# Altium integrated library Renesas Microcontroller R8C.IntLib: 628 symbols (part 16 of 33)
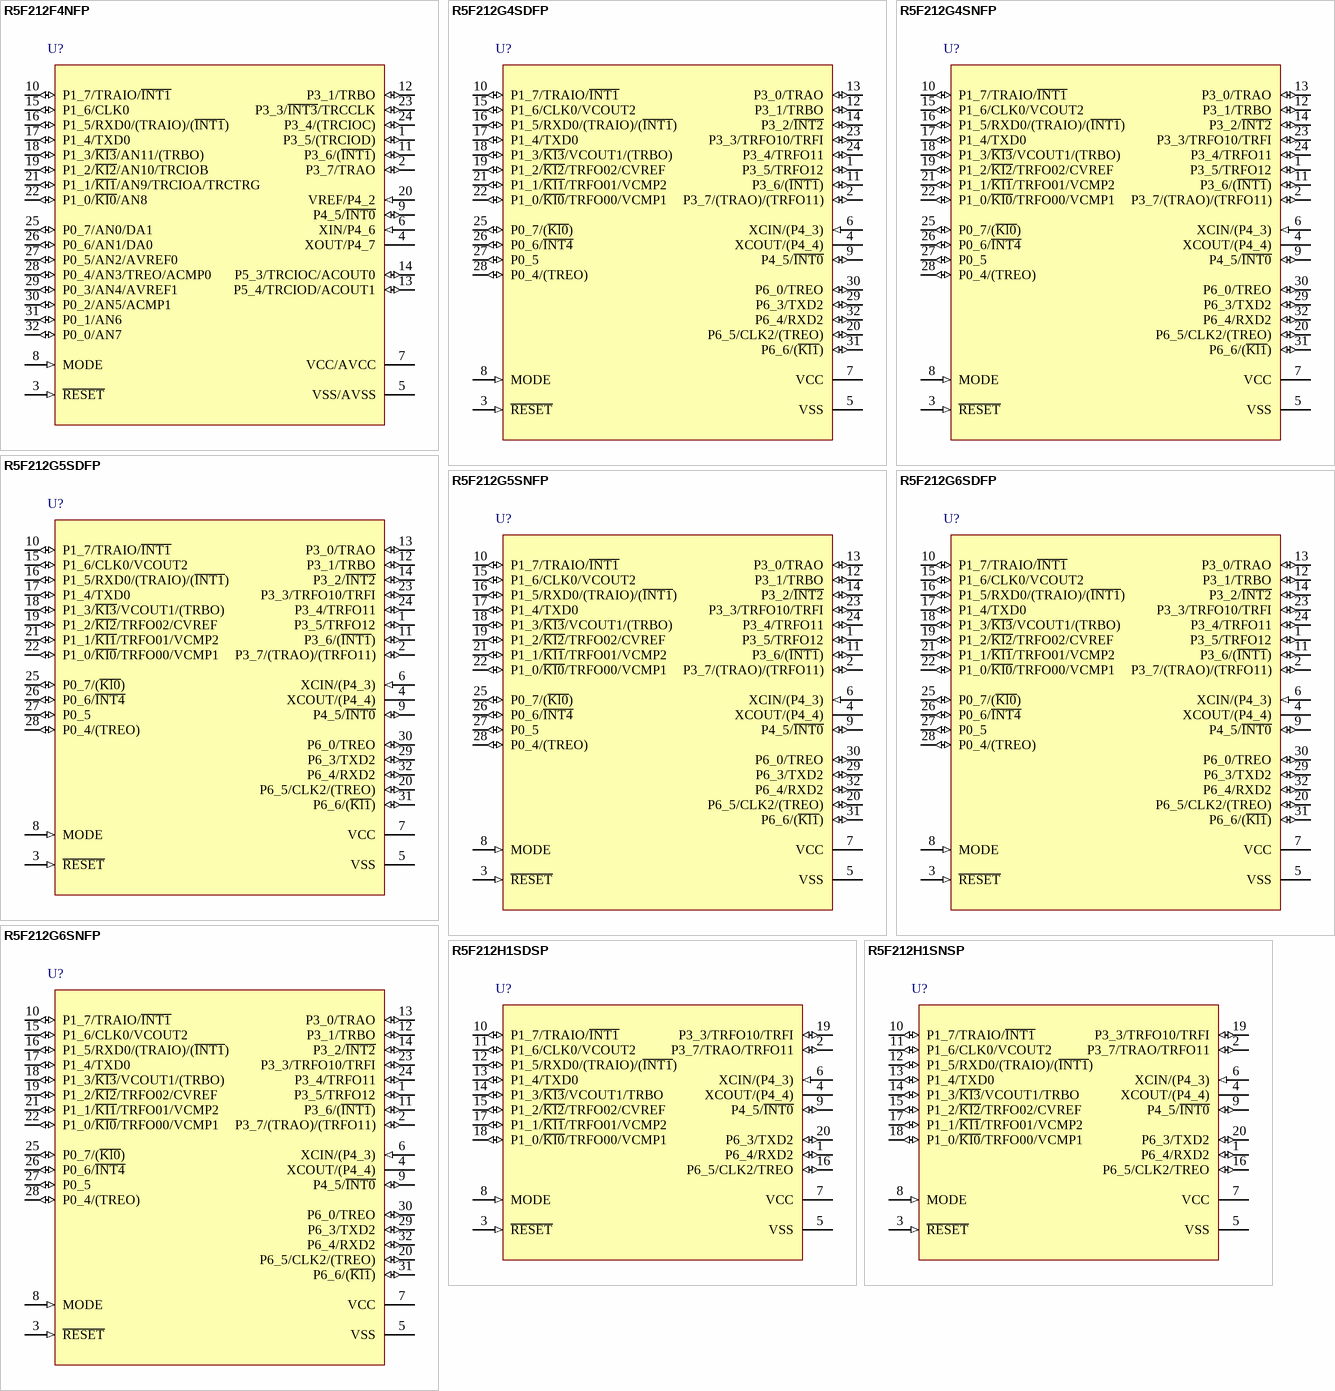
[diagram p131: symbols R5F212F4NFP to R5F212H1SNSP]

## R5F212F4NFP
designator U?
R8C/2F Group Single Chip 16-Bit CMOS MCU, 16K ROM + 1K x2 Data Flash, 1K RAM, N Version; Published: 30-Oct-2009; DatasheetVersion: Rev.1.00, Dec-2007; PackageVersion: Oct-2005; PackageReference: PLQP0032GB-A; Publisher: Altium Limited; PackageDescription: 32-Pin Plastic Low Profile QFP, 7 x 7 x 1.4 mm Body, 0.8 mm Pitch; Code_JEITA: P-LQFP32-7x7-0.80; ComponentLink1Description: Manufacturer Link; ComponentLink1URL: http://sg.renesas.com/fmwk.jsp?cnt=r8c_family_landing.jsp&fp=/products/mpumcu/r8c_family/; ComponentLink2Description: Datasheet; ComponentLink2URL: http://documentation.renesas.com/eng/products/mpumcu/rej03b0222_r8c2e2fds.pdf; ComponentLink3Description: Packaging Specification; ComponentLink3URL: http://sg.renesas.com/media/products/common_info/package/pdf/ic/code/plqp0032gb_a.pdf
footprint PLQP0032GB-A_N (QFP, 32-Leads, Body 7x7mm, Pitch 0.8mm, IPC Medium Density)
footprint PLQP0032GB-A_L (QFP, 32-Leads, Body 7x7mm, Pitch 0.8mm, IPC High Density)
footprint PLQP0032GB-A_M (QFP, 32-Leads, Body 7x7mm, Pitch 0.8mm, IPC Low Density)
pins: 1 P3_5/(TRCIOD) (io), 2 P3_7/TRAO (io), 3 ~{RESET} (in), 4 XOUT/P4_7, 5 VSS/AVSS (power), 6 XIN/P4_6 (in), 7 VCC/AVCC (power), 8 MODE (in), 9 P4_5/~{INT0} (io), 10 P1_7/TRAIO/~{INT1} (io), 11 P3_6/(~{INT1}) (io), 12 P3_1/TRBO (io), 13 P5_4/TRCIOD/ACOUT1 (io), 14 P5_3/TRCIOC/ACOUT0 (io), 15 P1_6/CLK0 (io), 16 P1_5/RXD0/(TRAIO)/(~{INT1}) (io), 17 P1_4/TXD0 (io), 18 P1_3/~{KI3}/AN11/(TRBO) (io), 19 P1_2/~{KI2}/AN10/TRCIOB (io), 20 VREF/P4_2 (in), 21 P1_1/~{KI1}/AN9/TRCIOA/TRCTRG (io), 22 P1_0/~{KI0}/AN8 (io), 23 P3_3/~{INT3}/TRCCLK (io), 24 P3_4/(TRCIOC) (io), 25 P0_7/AN0/DA1 (io), 26 P0_6/AN1/DA0 (io), 27 P0_5/AN2/AVREF0 (io), 28 P0_4/AN3/TREO/ACMP0 (io), 29 P0_3/AN4/AVREF1 (io), 30 P0_2/AN5/ACMP1 (io), 31 P0_1/AN6 (io), 32 P0_0/AN7 (io)

## R5F212G4SDFP
designator U?
R8C/2G Group Single Chip 16-Bit CMOS MCU, 16K ROM, 512b RAM, D Version; Published: 30-Oct-2009; DatasheetVersion: Rev.1.00, Apr-2008; PackageVersion: Oct-2005; PackageReference: PLQP0032GB-A; Publisher: Altium Limited; PackageDescription: 32-Pin Plastic Low Profile QFP, 7 x 7 x 1.4 mm Body, 0.8 mm Pitch; Code_JEITA: P-LQFP32-7x7-0.80; ComponentLink1Description: Manufacturer Link; ComponentLink1URL: http://sg.renesas.com/fmwk.jsp?cnt=r8c_family_landing.jsp&fp=/products/mpumcu/r8c_family/; ComponentLink2Description: Datasheet; ComponentLink2URL: http://documentation.renesas.com/eng/products/mpumcu/rej03b0223_r8c2gds.pdf; ComponentLink3Description: Packaging Specification; ComponentLink3URL: http://sg.renesas.com/media/products/common_info/package/pdf/ic/code/plqp0032gb_a.pdf
footprint PLQP0032GB-A_N (QFP, 32-Leads, Body 7x7mm, Pitch 0.8mm, IPC Medium Density)
footprint PLQP0032GB-A_L (QFP, 32-Leads, Body 7x7mm, Pitch 0.8mm, IPC High Density)
footprint PLQP0032GB-A_M (QFP, 32-Leads, Body 7x7mm, Pitch 0.8mm, IPC Low Density)
pins: 1 P3_5/TRFO12 (io), 2 P3_7/(TRAO)/(TRFO11) (io), 3 ~{RESET} (in), 4 XCOUT/(P4_4), 5 VSS (power), 6 XCIN/(P4_3) (in), 7 VCC (power), 8 MODE (in), 9 P4_5/~{INT0} (io), 10 P1_7/TRAIO/~{INT1} (io), 11 P3_6/(~{INT1}) (io), 12 P3_1/TRBO (io), 13 P3_0/TRAO (io), 14 P3_2/~{INT2} (io), 15 P1_6/CLK0/VCOUT2 (io), 16 P1_5/RXD0/(TRAIO)/(~{INT1}) (io), 17 P1_4/TXD0 (io), 18 P1_3/~{KI3}/VCOUT1/(TRBO) (io), 19 P1_2/~{KI2}/TRFO02/CVREF (io), 20 P6_5/CLK2/(TREO) (io), 21 P1_1/~{KI1}/TRFO01/VCMP2 (io), 22 P1_0/~{KI0}/TRFO00/VCMP1 (io), 23 P3_3/TRFO10/TRFI (io), 24 P3_4/TRFO11 (io), 25 P0_7/(~{Kl0}) (io), 26 P0_6/~{INT4} (io), 27 P0_5 (io), 28 P0_4/(TREO) (io), 29 P6_3/TXD2 (io), 30 P6_0/TREO (io), 31 P6_6/(~{Kl1}) (io), 32 P6_4/RXD2 (io)

## R5F212G4SNFP
designator U?
R8C/2G Group Single Chip 16-Bit CMOS MCU, 16K ROM, 512b RAM, N Version; Published: 30-Oct-2009; DatasheetVersion: Rev.1.00, Apr-2008; PackageVersion: Oct-2005; PackageReference: PLQP0032GB-A; Publisher: Altium Limited; PackageDescription: 32-Pin Plastic Low Profile QFP, 7 x 7 x 1.4 mm Body, 0.8 mm Pitch; Code_JEITA: P-LQFP32-7x7-0.80; ComponentLink1Description: Manufacturer Link; ComponentLink1URL: http://sg.renesas.com/fmwk.jsp?cnt=r8c_family_landing.jsp&fp=/products/mpumcu/r8c_family/; ComponentLink2Description: Datasheet; ComponentLink2URL: http://documentation.renesas.com/eng/products/mpumcu/rej03b0223_r8c2gds.pdf; ComponentLink3Description: Packaging Specification; ComponentLink3URL: http://sg.renesas.com/media/products/common_info/package/pdf/ic/code/plqp0032gb_a.pdf
footprint PLQP0032GB-A_N (QFP, 32-Leads, Body 7x7mm, Pitch 0.8mm, IPC Medium Density)
footprint PLQP0032GB-A_L (QFP, 32-Leads, Body 7x7mm, Pitch 0.8mm, IPC High Density)
footprint PLQP0032GB-A_M (QFP, 32-Leads, Body 7x7mm, Pitch 0.8mm, IPC Low Density)
pins: 1 P3_5/TRFO12 (io), 2 P3_7/(TRAO)/(TRFO11) (io), 3 ~{RESET} (in), 4 XCOUT/(P4_4), 5 VSS (power), 6 XCIN/(P4_3) (in), 7 VCC (power), 8 MODE (in), 9 P4_5/~{INT0} (io), 10 P1_7/TRAIO/~{INT1} (io), 11 P3_6/(~{INT1}) (io), 12 P3_1/TRBO (io), 13 P3_0/TRAO (io), 14 P3_2/~{INT2} (io), 15 P1_6/CLK0/VCOUT2 (io), 16 P1_5/RXD0/(TRAIO)/(~{INT1}) (io), 17 P1_4/TXD0 (io), 18 P1_3/~{KI3}/VCOUT1/(TRBO) (io), 19 P1_2/~{KI2}/TRFO02/CVREF (io), 20 P6_5/CLK2/(TREO) (io), 21 P1_1/~{KI1}/TRFO01/VCMP2 (io), 22 P1_0/~{KI0}/TRFO00/VCMP1 (io), 23 P3_3/TRFO10/TRFI (io), 24 P3_4/TRFO11 (io), 25 P0_7/(~{Kl0}) (io), 26 P0_6/~{INT4} (io), 27 P0_5 (io), 28 P0_4/(TREO) (io), 29 P6_3/TXD2 (io), 30 P6_0/TREO (io), 31 P6_6/(~{Kl1}) (io), 32 P6_4/RXD2 (io)

## R5F212G5SDFP
designator U?
R8C/2G Group Single Chip 16-Bit CMOS MCU, 24K ROM, 1K RAM, D Version; Published: 30-Oct-2009; DatasheetVersion: Rev.1.00, Apr-2008; PackageVersion: Oct-2005; PackageReference: PLQP0032GB-A; Publisher: Altium Limited; PackageDescription: 32-Pin Plastic Low Profile QFP, 7 x 7 x 1.4 mm Body, 0.8 mm Pitch; Code_JEITA: P-LQFP32-7x7-0.80; ComponentLink1Description: Manufacturer Link; ComponentLink1URL: http://sg.renesas.com/fmwk.jsp?cnt=r8c_family_landing.jsp&fp=/products/mpumcu/r8c_family/; ComponentLink2Description: Datasheet; ComponentLink2URL: http://documentation.renesas.com/eng/products/mpumcu/rej03b0223_r8c2gds.pdf; ComponentLink3Description: Packaging Specification; ComponentLink3URL: http://sg.renesas.com/media/products/common_info/package/pdf/ic/code/plqp0032gb_a.pdf
footprint PLQP0032GB-A_N (QFP, 32-Leads, Body 7x7mm, Pitch 0.8mm, IPC Medium Density)
footprint PLQP0032GB-A_L (QFP, 32-Leads, Body 7x7mm, Pitch 0.8mm, IPC High Density)
footprint PLQP0032GB-A_M (QFP, 32-Leads, Body 7x7mm, Pitch 0.8mm, IPC Low Density)
pins: 1 P3_5/TRFO12 (io), 2 P3_7/(TRAO)/(TRFO11) (io), 3 ~{RESET} (in), 4 XCOUT/(P4_4), 5 VSS (power), 6 XCIN/(P4_3) (in), 7 VCC (power), 8 MODE (in), 9 P4_5/~{INT0} (io), 10 P1_7/TRAIO/~{INT1} (io), 11 P3_6/(~{INT1}) (io), 12 P3_1/TRBO (io), 13 P3_0/TRAO (io), 14 P3_2/~{INT2} (io), 15 P1_6/CLK0/VCOUT2 (io), 16 P1_5/RXD0/(TRAIO)/(~{INT1}) (io), 17 P1_4/TXD0 (io), 18 P1_3/~{KI3}/VCOUT1/(TRBO) (io), 19 P1_2/~{KI2}/TRFO02/CVREF (io), 20 P6_5/CLK2/(TREO) (io), 21 P1_1/~{KI1}/TRFO01/VCMP2 (io), 22 P1_0/~{KI0}/TRFO00/VCMP1 (io), 23 P3_3/TRFO10/TRFI (io), 24 P3_4/TRFO11 (io), 25 P0_7/(~{Kl0}) (io), 26 P0_6/~{INT4} (io), 27 P0_5 (io), 28 P0_4/(TREO) (io), 29 P6_3/TXD2 (io), 30 P6_0/TREO (io), 31 P6_6/(~{Kl1}) (io), 32 P6_4/RXD2 (io)

## R5F212G5SNFP
designator U?
R8C/2G Group Single Chip 16-Bit CMOS MCU, 24K ROM, 1K RAM, N Version; Published: 30-Oct-2009; DatasheetVersion: Rev.1.00, Apr-2008; PackageVersion: Oct-2005; PackageReference: PLQP0032GB-A; Publisher: Altium Limited; PackageDescription: 32-Pin Plastic Low Profile QFP, 7 x 7 x 1.4 mm Body, 0.8 mm Pitch; Code_JEITA: P-LQFP32-7x7-0.80; ComponentLink1Description: Manufacturer Link; ComponentLink1URL: http://sg.renesas.com/fmwk.jsp?cnt=r8c_family_landing.jsp&fp=/products/mpumcu/r8c_family/; ComponentLink2Description: Datasheet; ComponentLink2URL: http://documentation.renesas.com/eng/products/mpumcu/rej03b0223_r8c2gds.pdf; ComponentLink3Description: Packaging Specification; ComponentLink3URL: http://sg.renesas.com/media/products/common_info/package/pdf/ic/code/plqp0032gb_a.pdf
footprint PLQP0032GB-A_N (QFP, 32-Leads, Body 7x7mm, Pitch 0.8mm, IPC Medium Density)
footprint PLQP0032GB-A_L (QFP, 32-Leads, Body 7x7mm, Pitch 0.8mm, IPC High Density)
footprint PLQP0032GB-A_M (QFP, 32-Leads, Body 7x7mm, Pitch 0.8mm, IPC Low Density)
pins: 1 P3_5/TRFO12 (io), 2 P3_7/(TRAO)/(TRFO11) (io), 3 ~{RESET} (in), 4 XCOUT/(P4_4), 5 VSS (power), 6 XCIN/(P4_3) (in), 7 VCC (power), 8 MODE (in), 9 P4_5/~{INT0} (io), 10 P1_7/TRAIO/~{INT1} (io), 11 P3_6/(~{INT1}) (io), 12 P3_1/TRBO (io), 13 P3_0/TRAO (io), 14 P3_2/~{INT2} (io), 15 P1_6/CLK0/VCOUT2 (io), 16 P1_5/RXD0/(TRAIO)/(~{INT1}) (io), 17 P1_4/TXD0 (io), 18 P1_3/~{KI3}/VCOUT1/(TRBO) (io), 19 P1_2/~{KI2}/TRFO02/CVREF (io), 20 P6_5/CLK2/(TREO) (io), 21 P1_1/~{KI1}/TRFO01/VCMP2 (io), 22 P1_0/~{KI0}/TRFO00/VCMP1 (io), 23 P3_3/TRFO10/TRFI (io), 24 P3_4/TRFO11 (io), 25 P0_7/(~{Kl0}) (io), 26 P0_6/~{INT4} (io), 27 P0_5 (io), 28 P0_4/(TREO) (io), 29 P6_3/TXD2 (io), 30 P6_0/TREO (io), 31 P6_6/(~{Kl1}) (io), 32 P6_4/RXD2 (io)

## R5F212G6SDFP
designator U?
R8C/2G Group Single Chip 16-Bit CMOS MCU, 32K ROM, 1K RAM, D Version; Published: 30-Oct-2009; DatasheetVersion: Rev.1.00, Apr-2008; PackageVersion: Oct-2005; PackageReference: PLQP0032GB-A; Publisher: Altium Limited; PackageDescription: 32-Pin Plastic Low Profile QFP, 7 x 7 x 1.4 mm Body, 0.8 mm Pitch; Code_JEITA: P-LQFP32-7x7-0.80; ComponentLink1Description: Manufacturer Link; ComponentLink1URL: http://sg.renesas.com/fmwk.jsp?cnt=r8c_family_landing.jsp&fp=/products/mpumcu/r8c_family/; ComponentLink2Description: Datasheet; ComponentLink2URL: http://documentation.renesas.com/eng/products/mpumcu/rej03b0223_r8c2gds.pdf; ComponentLink3Description: Packaging Specification; ComponentLink3URL: http://sg.renesas.com/media/products/common_info/package/pdf/ic/code/plqp0032gb_a.pdf
footprint PLQP0032GB-A_N (QFP, 32-Leads, Body 7x7mm, Pitch 0.8mm, IPC Medium Density)
footprint PLQP0032GB-A_L (QFP, 32-Leads, Body 7x7mm, Pitch 0.8mm, IPC High Density)
footprint PLQP0032GB-A_M (QFP, 32-Leads, Body 7x7mm, Pitch 0.8mm, IPC Low Density)
pins: 1 P3_5/TRFO12 (io), 2 P3_7/(TRAO)/(TRFO11) (io), 3 ~{RESET} (in), 4 XCOUT/(P4_4), 5 VSS (power), 6 XCIN/(P4_3) (in), 7 VCC (power), 8 MODE (in), 9 P4_5/~{INT0} (io), 10 P1_7/TRAIO/~{INT1} (io), 11 P3_6/(~{INT1}) (io), 12 P3_1/TRBO (io), 13 P3_0/TRAO (io), 14 P3_2/~{INT2} (io), 15 P1_6/CLK0/VCOUT2 (io), 16 P1_5/RXD0/(TRAIO)/(~{INT1}) (io), 17 P1_4/TXD0 (io), 18 P1_3/~{KI3}/VCOUT1/(TRBO) (io), 19 P1_2/~{KI2}/TRFO02/CVREF (io), 20 P6_5/CLK2/(TREO) (io), 21 P1_1/~{KI1}/TRFO01/VCMP2 (io), 22 P1_0/~{KI0}/TRFO00/VCMP1 (io), 23 P3_3/TRFO10/TRFI (io), 24 P3_4/TRFO11 (io), 25 P0_7/(~{Kl0}) (io), 26 P0_6/~{INT4} (io), 27 P0_5 (io), 28 P0_4/(TREO) (io), 29 P6_3/TXD2 (io), 30 P6_0/TREO (io), 31 P6_6/(~{Kl1}) (io), 32 P6_4/RXD2 (io)

## R5F212G6SNFP
designator U?
R8C/2G Group Single Chip 16-Bit CMOS MCU, 32K ROM, 1K RAM, N Version; Published: 30-Oct-2009; DatasheetVersion: Rev.1.00, Apr-2008; PackageVersion: Oct-2005; PackageReference: PLQP0032GB-A; Publisher: Altium Limited; PackageDescription: 32-Pin Plastic Low Profile QFP, 7 x 7 x 1.4 mm Body, 0.8 mm Pitch; Code_JEITA: P-LQFP32-7x7-0.80; ComponentLink1Description: Manufacturer Link; ComponentLink1URL: http://sg.renesas.com/fmwk.jsp?cnt=r8c_family_landing.jsp&fp=/products/mpumcu/r8c_family/; ComponentLink2Description: Datasheet; ComponentLink2URL: http://documentation.renesas.com/eng/products/mpumcu/rej03b0223_r8c2gds.pdf; ComponentLink3Description: Packaging Specification; ComponentLink3URL: http://sg.renesas.com/media/products/common_info/package/pdf/ic/code/plqp0032gb_a.pdf
footprint PLQP0032GB-A_N (QFP, 32-Leads, Body 7x7mm, Pitch 0.8mm, IPC Medium Density)
footprint PLQP0032GB-A_L (QFP, 32-Leads, Body 7x7mm, Pitch 0.8mm, IPC High Density)
footprint PLQP0032GB-A_M (QFP, 32-Leads, Body 7x7mm, Pitch 0.8mm, IPC Low Density)
pins: 1 P3_5/TRFO12 (io), 2 P3_7/(TRAO)/(TRFO11) (io), 3 ~{RESET} (in), 4 XCOUT/(P4_4), 5 VSS (power), 6 XCIN/(P4_3) (in), 7 VCC (power), 8 MODE (in), 9 P4_5/~{INT0} (io), 10 P1_7/TRAIO/~{INT1} (io), 11 P3_6/(~{INT1}) (io), 12 P3_1/TRBO (io), 13 P3_0/TRAO (io), 14 P3_2/~{INT2} (io), 15 P1_6/CLK0/VCOUT2 (io), 16 P1_5/RXD0/(TRAIO)/(~{INT1}) (io), 17 P1_4/TXD0 (io), 18 P1_3/~{KI3}/VCOUT1/(TRBO) (io), 19 P1_2/~{KI2}/TRFO02/CVREF (io), 20 P6_5/CLK2/(TREO) (io), 21 P1_1/~{KI1}/TRFO01/VCMP2 (io), 22 P1_0/~{KI0}/TRFO00/VCMP1 (io), 23 P3_3/TRFO10/TRFI (io), 24 P3_4/TRFO11 (io), 25 P0_7/(~{Kl0}) (io), 26 P0_6/~{INT4} (io), 27 P0_5 (io), 28 P0_4/(TREO) (io), 29 P6_3/TXD2 (io), 30 P6_0/TREO (io), 31 P6_6/(~{Kl1}) (io), 32 P6_4/RXD2 (io)

## R5F212H1SDSP
designator U?
R8C/2H Group Single Chip 16-Bit CMOS MCU, 4K ROM, 256b RAM, D Version; Published: 30-Oct-2009; DatasheetVersion: Rev.1.00, Mar-2008; PackageVersion: Sep-2005; PackageReference: PLSP0020JB-A; Publisher: Altium Limited; PackageDescription: 20-Pin Plastic Low Profile Shrink SOP, 6.5 x 4.4 x 1.15 mm Body, 0.65 mm Pitch; Code_JEITA: P-LSSOP20-4.4x6.5-0.65; Code_JEDEC: MO-152-AC; ComponentLink1Description: Manufacturer Link; ComponentLink1URL: http://sg.renesas.com/fmwk.jsp?cnt=r8c_family_landing.jsp&fp=/products/mpumcu/r8c_family/; ComponentLink2Description: Datasheet; ComponentLink2URL: http://documentation.renesas.com/eng/products/mpumcu/rej03b0217_r8c2h2jds.pdf; ComponentLink3Description: Packaging Specification; ComponentLink3URL: http://sg.renesas.com/media/products/common_info/package/pdf/ic/code/plsp0020jb_a.pdf
footprint PLSP0020JB-A_N (SOP, 20-Leads, Body 6.5x4.4mm, Pitch 0.65mm, IPC Medium Density)
footprint PLSP0020JB-A_L (SOP, 20-Leads, Body 6.5x4.4mm, Pitch 0.65mm, IPC High Density)
footprint PLSP0020JB-A_M (SOP, 20-Leads, Body 6.5x4.4mm, Pitch 0.65mm, IPC Low Density)
pins: 1 P6_4/RXD2 (io), 2 P3_7/TRAO/TRFO11 (io), 3 ~{RESET} (in), 4 XCOUT/(P4_4), 5 VSS (power), 6 XCIN/(P4_3) (in), 7 VCC (power), 8 MODE (in), 9 P4_5/~{INT0} (io), 10 P1_7/TRAIO/~{INT1} (io), 11 P1_6/CLK0/VCOUT2 (io), 12 P1_5/RXD0/(TRAIO)/(~{INT1}) (io), 13 P1_4/TXD0 (io), 14 P1_3/~{KI3}/VCOUT1/TRBO (io), 15 P1_2/~{KI2}/TRFO02/CVREF (io), 16 P6_5/CLK2/TREO (io), 17 P1_1/~{KI1}/TRFO01/VCMP2 (io), 18 P1_0/~{KI0}/TRFO00/VCMP1 (io), 19 P3_3/TRFO10/TRFI (io), 20 P6_3/TXD2 (io)

## R5F212H1SNSP
designator U?
R8C/2H Group Single Chip 16-Bit CMOS MCU, 4K ROM, 256b RAM, N Version; Published: 30-Oct-2009; DatasheetVersion: Rev.1.00, Mar-2008; PackageVersion: Sep-2005; PackageReference: PLSP0020JB-A; Publisher: Altium Limited; PackageDescription: 20-Pin Plastic Low Profile Shrink SOP, 6.5 x 4.4 x 1.15 mm Body, 0.65 mm Pitch; Code_JEITA: P-LSSOP20-4.4x6.5-0.65; Code_JEDEC: MO-152-AC; ComponentLink1Description: Manufacturer Link; ComponentLink1URL: http://sg.renesas.com/fmwk.jsp?cnt=r8c_family_landing.jsp&fp=/products/mpumcu/r8c_family/; ComponentLink2Description: Datasheet; ComponentLink2URL: http://documentation.renesas.com/eng/products/mpumcu/rej03b0217_r8c2h2jds.pdf; ComponentLink3Description: Packaging Specification; ComponentLink3URL: http://sg.renesas.com/media/products/common_info/package/pdf/ic/code/plsp0020jb_a.pdf
footprint PLSP0020JB-A_N (SOP, 20-Leads, Body 6.5x4.4mm, Pitch 0.65mm, IPC Medium Density)
footprint PLSP0020JB-A_L (SOP, 20-Leads, Body 6.5x4.4mm, Pitch 0.65mm, IPC High Density)
footprint PLSP0020JB-A_M (SOP, 20-Leads, Body 6.5x4.4mm, Pitch 0.65mm, IPC Low Density)
pins: 1 P6_4/RXD2 (io), 2 P3_7/TRAO/TRFO11 (io), 3 ~{RESET} (in), 4 XCOUT/(P4_4), 5 VSS (power), 6 XCIN/(P4_3) (in), 7 VCC (power), 8 MODE (in), 9 P4_5/~{INT0} (io), 10 P1_7/TRAIO/~{INT1} (io), 11 P1_6/CLK0/VCOUT2 (io), 12 P1_5/RXD0/(TRAIO)/(~{INT1}) (io), 13 P1_4/TXD0 (io), 14 P1_3/~{KI3}/VCOUT1/TRBO (io), 15 P1_2/~{KI2}/TRFO02/CVREF (io), 16 P6_5/CLK2/TREO (io), 17 P1_1/~{KI1}/TRFO01/VCMP2 (io), 18 P1_0/~{KI0}/TRFO00/VCMP1 (io), 19 P3_3/TRFO10/TRFI (io), 20 P6_3/TXD2 (io)

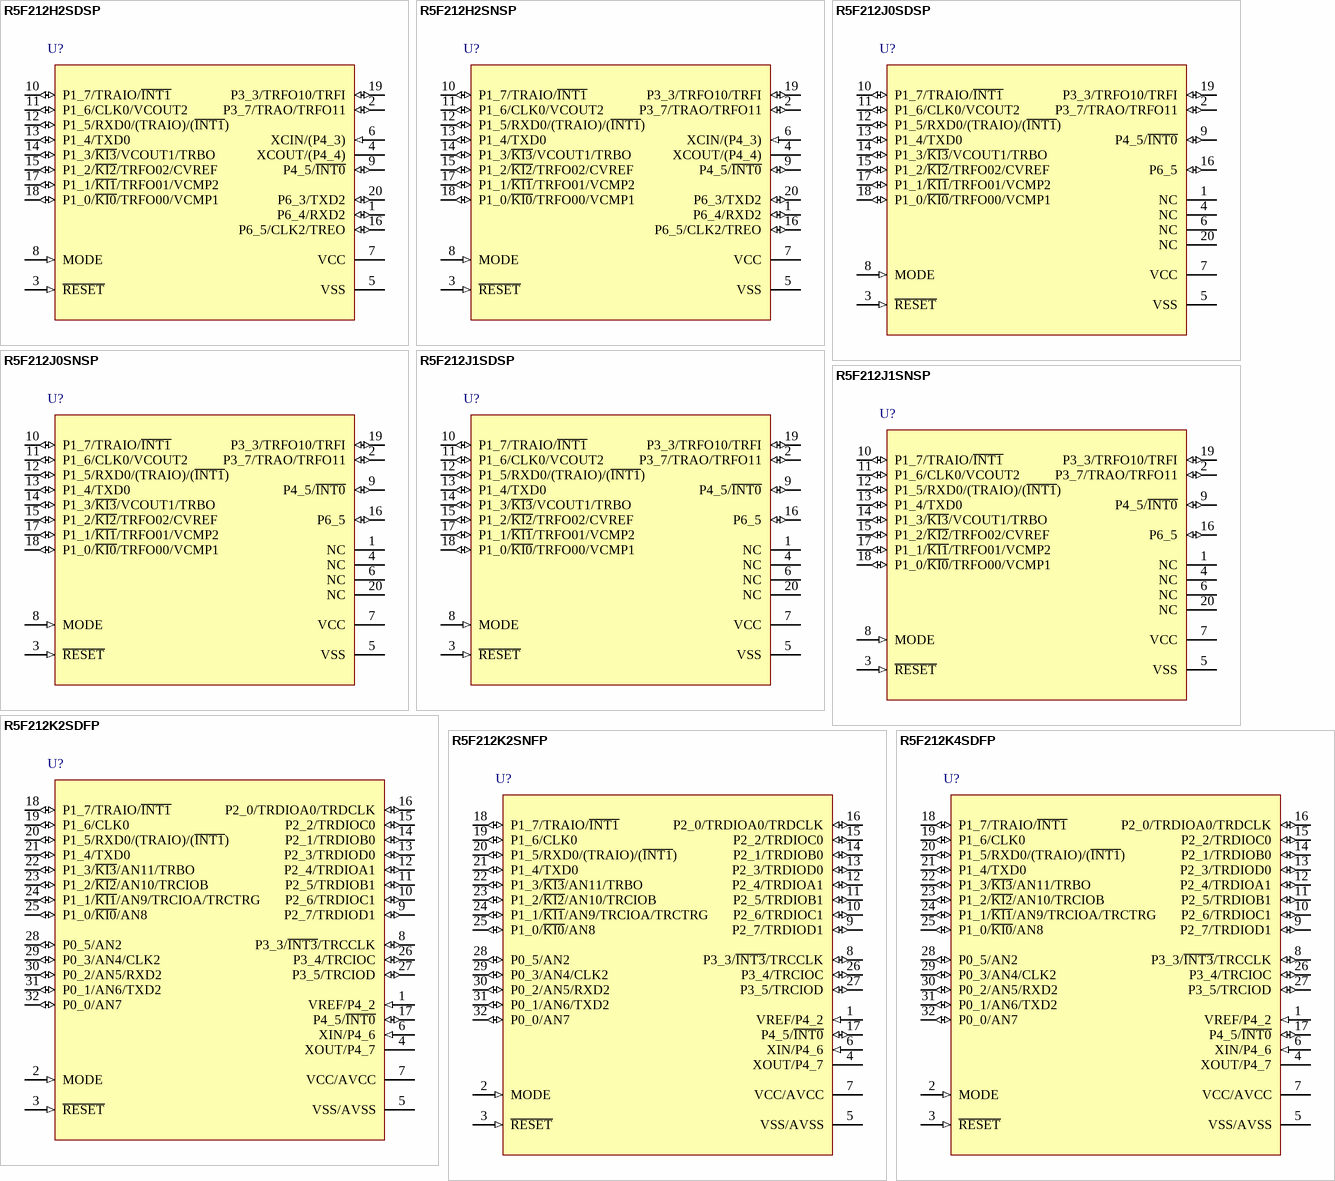
[diagram p55: symbols R5F212H2SDSP to R5F212K4SDFP]

## R5F212H2SDSP
designator U?
R8C/2H Group Single Chip 16-Bit CMOS MCU, 8K ROM, 384b RAM, D Version; Published: 30-Oct-2009; DatasheetVersion: Rev.1.00, Mar-2008; PackageVersion: Sep-2005; PackageReference: PLSP0020JB-A; Publisher: Altium Limited; PackageDescription: 20-Pin Plastic Low Profile Shrink SOP, 6.5 x 4.4 x 1.15 mm Body, 0.65 mm Pitch; Code_JEITA: P-LSSOP20-4.4x6.5-0.65; Code_JEDEC: MO-152-AC; ComponentLink1Description: Manufacturer Link; ComponentLink1URL: http://sg.renesas.com/fmwk.jsp?cnt=r8c_family_landing.jsp&fp=/products/mpumcu/r8c_family/; ComponentLink2Description: Datasheet; ComponentLink2URL: http://documentation.renesas.com/eng/products/mpumcu/rej03b0217_r8c2h2jds.pdf; ComponentLink3Description: Packaging Specification; ComponentLink3URL: http://sg.renesas.com/media/products/common_info/package/pdf/ic/code/plsp0020jb_a.pdf
footprint PLSP0020JB-A_N (SOP, 20-Leads, Body 6.5x4.4mm, Pitch 0.65mm, IPC Medium Density)
footprint PLSP0020JB-A_L (SOP, 20-Leads, Body 6.5x4.4mm, Pitch 0.65mm, IPC High Density)
footprint PLSP0020JB-A_M (SOP, 20-Leads, Body 6.5x4.4mm, Pitch 0.65mm, IPC Low Density)
pins: 1 P6_4/RXD2 (io), 2 P3_7/TRAO/TRFO11 (io), 3 ~{RESET} (in), 4 XCOUT/(P4_4), 5 VSS (power), 6 XCIN/(P4_3) (in), 7 VCC (power), 8 MODE (in), 9 P4_5/~{INT0} (io), 10 P1_7/TRAIO/~{INT1} (io), 11 P1_6/CLK0/VCOUT2 (io), 12 P1_5/RXD0/(TRAIO)/(~{INT1}) (io), 13 P1_4/TXD0 (io), 14 P1_3/~{KI3}/VCOUT1/TRBO (io), 15 P1_2/~{KI2}/TRFO02/CVREF (io), 16 P6_5/CLK2/TREO (io), 17 P1_1/~{KI1}/TRFO01/VCMP2 (io), 18 P1_0/~{KI0}/TRFO00/VCMP1 (io), 19 P3_3/TRFO10/TRFI (io), 20 P6_3/TXD2 (io)

## R5F212H2SNSP
designator U?
R8C/2H Group Single Chip 16-Bit CMOS MCU, 8K ROM, 384b RAM, N Version; Published: 30-Oct-2009; DatasheetVersion: Rev.1.00, Mar-2008; PackageVersion: Sep-2005; PackageReference: PLSP0020JB-A; Publisher: Altium Limited; PackageDescription: 20-Pin Plastic Low Profile Shrink SOP, 6.5 x 4.4 x 1.15 mm Body, 0.65 mm Pitch; Code_JEITA: P-LSSOP20-4.4x6.5-0.65; Code_JEDEC: MO-152-AC; ComponentLink1Description: Manufacturer Link; ComponentLink1URL: http://sg.renesas.com/fmwk.jsp?cnt=r8c_family_landing.jsp&fp=/products/mpumcu/r8c_family/; ComponentLink2Description: Datasheet; ComponentLink2URL: http://documentation.renesas.com/eng/products/mpumcu/rej03b0217_r8c2h2jds.pdf; ComponentLink3Description: Packaging Specification; ComponentLink3URL: http://sg.renesas.com/media/products/common_info/package/pdf/ic/code/plsp0020jb_a.pdf
footprint PLSP0020JB-A_N (SOP, 20-Leads, Body 6.5x4.4mm, Pitch 0.65mm, IPC Medium Density)
footprint PLSP0020JB-A_L (SOP, 20-Leads, Body 6.5x4.4mm, Pitch 0.65mm, IPC High Density)
footprint PLSP0020JB-A_M (SOP, 20-Leads, Body 6.5x4.4mm, Pitch 0.65mm, IPC Low Density)
pins: 1 P6_4/RXD2 (io), 2 P3_7/TRAO/TRFO11 (io), 3 ~{RESET} (in), 4 XCOUT/(P4_4), 5 VSS (power), 6 XCIN/(P4_3) (in), 7 VCC (power), 8 MODE (in), 9 P4_5/~{INT0} (io), 10 P1_7/TRAIO/~{INT1} (io), 11 P1_6/CLK0/VCOUT2 (io), 12 P1_5/RXD0/(TRAIO)/(~{INT1}) (io), 13 P1_4/TXD0 (io), 14 P1_3/~{KI3}/VCOUT1/TRBO (io), 15 P1_2/~{KI2}/TRFO02/CVREF (io), 16 P6_5/CLK2/TREO (io), 17 P1_1/~{KI1}/TRFO01/VCMP2 (io), 18 P1_0/~{KI0}/TRFO00/VCMP1 (io), 19 P3_3/TRFO10/TRFI (io), 20 P6_3/TXD2 (io)

## R5F212J0SDSP
designator U?
R8C/2J Group Single Chip 16-Bit CMOS MCU, 2K ROM, 256b RAM, D Version; Published: 30-Oct-2009; DatasheetVersion: Rev.1.00, Mar-2008; PackageVersion: Sep-2005; PackageReference: PLSP0020JB-A; Publisher: Altium Limited; PackageDescription: 20-Pin Plastic Low Profile Shrink SOP, 6.5 x 4.4 x 1.15 mm Body, 0.65 mm Pitch; Code_JEITA: P-LSSOP20-4.4x6.5-0.65; Code_JEDEC: MO-152-AC; ComponentLink1Description: Manufacturer Link; ComponentLink1URL: http://sg.renesas.com/fmwk.jsp?cnt=r8c_family_landing.jsp&fp=/products/mpumcu/r8c_family/; ComponentLink2Description: Datasheet; ComponentLink2URL: http://documentation.renesas.com/eng/products/mpumcu/rej03b0217_r8c2h2jds.pdf; ComponentLink3Description: Packaging Specification; ComponentLink3URL: http://sg.renesas.com/media/products/common_info/package/pdf/ic/code/plsp0020jb_a.pdf
footprint PLSP0020JB-A_N (SOP, 20-Leads, Body 6.5x4.4mm, Pitch 0.65mm, IPC Medium Density)
footprint PLSP0020JB-A_L (SOP, 20-Leads, Body 6.5x4.4mm, Pitch 0.65mm, IPC High Density)
footprint PLSP0020JB-A_M (SOP, 20-Leads, Body 6.5x4.4mm, Pitch 0.65mm, IPC Low Density)
pins: 1 NC, 2 P3_7/TRAO/TRFO11 (io), 3 ~{RESET} (in), 4 NC, 5 VSS (power), 6 NC, 7 VCC (power), 8 MODE (in), 9 P4_5/~{INT0} (io), 10 P1_7/TRAIO/~{INT1} (io), 11 P1_6/CLK0/VCOUT2 (io), 12 P1_5/RXD0/(TRAIO)/(~{INT1}) (io), 13 P1_4/TXD0 (io), 14 P1_3/~{KI3}/VCOUT1/TRBO (io), 15 P1_2/~{KI2}/TRFO02/CVREF (io), 16 P6_5 (io), 17 P1_1/~{KI1}/TRFO01/VCMP2 (io), 18 P1_0/~{KI0}/TRFO00/VCMP1 (io), 19 P3_3/TRFO10/TRFI (io), 20 NC

## R5F212J0SNSP
designator U?
R8C/2J Group Single Chip 16-Bit CMOS MCU, 2K ROM, 256b RAM, N Version; Published: 30-Oct-2009; DatasheetVersion: Rev.1.00, Mar-2008; PackageVersion: Sep-2005; PackageReference: PLSP0020JB-A; Publisher: Altium Limited; PackageDescription: 20-Pin Plastic Low Profile Shrink SOP, 6.5 x 4.4 x 1.15 mm Body, 0.65 mm Pitch; Code_JEITA: P-LSSOP20-4.4x6.5-0.65; Code_JEDEC: MO-152-AC; ComponentLink1Description: Manufacturer Link; ComponentLink1URL: http://sg.renesas.com/fmwk.jsp?cnt=r8c_family_landing.jsp&fp=/products/mpumcu/r8c_family/; ComponentLink2Description: Datasheet; ComponentLink2URL: http://documentation.renesas.com/eng/products/mpumcu/rej03b0217_r8c2h2jds.pdf; ComponentLink3Description: Packaging Specification; ComponentLink3URL: http://sg.renesas.com/media/products/common_info/package/pdf/ic/code/plsp0020jb_a.pdf
footprint PLSP0020JB-A_N (SOP, 20-Leads, Body 6.5x4.4mm, Pitch 0.65mm, IPC Medium Density)
footprint PLSP0020JB-A_L (SOP, 20-Leads, Body 6.5x4.4mm, Pitch 0.65mm, IPC High Density)
footprint PLSP0020JB-A_M (SOP, 20-Leads, Body 6.5x4.4mm, Pitch 0.65mm, IPC Low Density)
pins: 1 NC, 2 P3_7/TRAO/TRFO11 (io), 3 ~{RESET} (in), 4 NC, 5 VSS (power), 6 NC, 7 VCC (power), 8 MODE (in), 9 P4_5/~{INT0} (io), 10 P1_7/TRAIO/~{INT1} (io), 11 P1_6/CLK0/VCOUT2 (io), 12 P1_5/RXD0/(TRAIO)/(~{INT1}) (io), 13 P1_4/TXD0 (io), 14 P1_3/~{KI3}/VCOUT1/TRBO (io), 15 P1_2/~{KI2}/TRFO02/CVREF (io), 16 P6_5 (io), 17 P1_1/~{KI1}/TRFO01/VCMP2 (io), 18 P1_0/~{KI0}/TRFO00/VCMP1 (io), 19 P3_3/TRFO10/TRFI (io), 20 NC

## R5F212J1SDSP
designator U?
R8C/2J Group Single Chip 16-Bit CMOS MCU, 4K ROM, 384b RAM, D Version; Published: 30-Oct-2009; DatasheetVersion: Rev.1.00, Mar-2008; PackageVersion: Sep-2005; PackageReference: PLSP0020JB-A; Publisher: Altium Limited; PackageDescription: 20-Pin Plastic Low Profile Shrink SOP, 6.5 x 4.4 x 1.15 mm Body, 0.65 mm Pitch; Code_JEITA: P-LSSOP20-4.4x6.5-0.65; Code_JEDEC: MO-152-AC; ComponentLink1Description: Manufacturer Link; ComponentLink1URL: http://sg.renesas.com/fmwk.jsp?cnt=r8c_family_landing.jsp&fp=/products/mpumcu/r8c_family/; ComponentLink2Description: Datasheet; ComponentLink2URL: http://documentation.renesas.com/eng/products/mpumcu/rej03b0217_r8c2h2jds.pdf; ComponentLink3Description: Packaging Specification; ComponentLink3URL: http://sg.renesas.com/media/products/common_info/package/pdf/ic/code/plsp0020jb_a.pdf
footprint PLSP0020JB-A_N (SOP, 20-Leads, Body 6.5x4.4mm, Pitch 0.65mm, IPC Medium Density)
footprint PLSP0020JB-A_L (SOP, 20-Leads, Body 6.5x4.4mm, Pitch 0.65mm, IPC High Density)
footprint PLSP0020JB-A_M (SOP, 20-Leads, Body 6.5x4.4mm, Pitch 0.65mm, IPC Low Density)
pins: 1 NC, 2 P3_7/TRAO/TRFO11 (io), 3 ~{RESET} (in), 4 NC, 5 VSS (power), 6 NC, 7 VCC (power), 8 MODE (in), 9 P4_5/~{INT0} (io), 10 P1_7/TRAIO/~{INT1} (io), 11 P1_6/CLK0/VCOUT2 (io), 12 P1_5/RXD0/(TRAIO)/(~{INT1}) (io), 13 P1_4/TXD0 (io), 14 P1_3/~{KI3}/VCOUT1/TRBO (io), 15 P1_2/~{KI2}/TRFO02/CVREF (io), 16 P6_5 (io), 17 P1_1/~{KI1}/TRFO01/VCMP2 (io), 18 P1_0/~{KI0}/TRFO00/VCMP1 (io), 19 P3_3/TRFO10/TRFI (io), 20 NC

## R5F212J1SNSP
designator U?
R8C/2J Group Single Chip 16-Bit CMOS MCU, 4K ROM, 384b RAM, N Version; Published: 30-Oct-2009; DatasheetVersion: Rev.1.00, Mar-2008; PackageVersion: Sep-2005; PackageReference: PLSP0020JB-A; Publisher: Altium Limited; PackageDescription: 20-Pin Plastic Low Profile Shrink SOP, 6.5 x 4.4 x 1.15 mm Body, 0.65 mm Pitch; Code_JEITA: P-LSSOP20-4.4x6.5-0.65; Code_JEDEC: MO-152-AC; ComponentLink1Description: Manufacturer Link; ComponentLink1URL: http://sg.renesas.com/fmwk.jsp?cnt=r8c_family_landing.jsp&fp=/products/mpumcu/r8c_family/; ComponentLink2Description: Datasheet; ComponentLink2URL: http://documentation.renesas.com/eng/products/mpumcu/rej03b0217_r8c2h2jds.pdf; ComponentLink3Description: Packaging Specification; ComponentLink3URL: http://sg.renesas.com/media/products/common_info/package/pdf/ic/code/plsp0020jb_a.pdf
footprint PLSP0020JB-A_N (SOP, 20-Leads, Body 6.5x4.4mm, Pitch 0.65mm, IPC Medium Density)
footprint PLSP0020JB-A_L (SOP, 20-Leads, Body 6.5x4.4mm, Pitch 0.65mm, IPC High Density)
footprint PLSP0020JB-A_M (SOP, 20-Leads, Body 6.5x4.4mm, Pitch 0.65mm, IPC Low Density)
pins: 1 NC, 2 P3_7/TRAO/TRFO11 (io), 3 ~{RESET} (in), 4 NC, 5 VSS (power), 6 NC, 7 VCC (power), 8 MODE (in), 9 P4_5/~{INT0} (io), 10 P1_7/TRAIO/~{INT1} (io), 11 P1_6/CLK0/VCOUT2 (io), 12 P1_5/RXD0/(TRAIO)/(~{INT1}) (io), 13 P1_4/TXD0 (io), 14 P1_3/~{KI3}/VCOUT1/TRBO (io), 15 P1_2/~{KI2}/TRFO02/CVREF (io), 16 P6_5 (io), 17 P1_1/~{KI1}/TRFO01/VCMP2 (io), 18 P1_0/~{KI0}/TRFO00/VCMP1 (io), 19 P3_3/TRFO10/TRFI (io), 20 NC

## R5F212K2SDFP
designator U?
R8C/2K Group Single Chip 16-Bit CMOS MCU, 8K ROM, 1K RAM, D Version; Published: 30-Oct-2009; DatasheetVersion: Rev.1.10, Dec-2007; PackageVersion: Oct-2005; PackageReference: PLQP0032GB-A; Publisher: Altium Limited; PackageDescription: 32-Pin Plastic Low Profile QFP, 7 x 7 x 1.4 mm Body, 0.8 mm Pitch; Code_JEITA: P-LQFP32-7x7-0.80; ComponentLink1Description: Manufacturer Link; ComponentLink1URL: http://sg.renesas.com/fmwk.jsp?cnt=r8c_family_landing.jsp&fp=/products/mpumcu/r8c_family/; ComponentLink2Description: Datasheet; ComponentLink2URL: http://documentation.renesas.com/eng/products/mpumcu/rej03b0219_r8c2k2lds.pdf; ComponentLink3Description: Packaging Specification; ComponentLink3URL: http://sg.renesas.com/media/products/common_info/package/pdf/ic/code/plqp0032gb_a.pdf
footprint PLQP0032GB-A_N (QFP, 32-Leads, Body 7x7mm, Pitch 0.8mm, IPC Medium Density)
footprint PLQP0032GB-A_L (QFP, 32-Leads, Body 7x7mm, Pitch 0.8mm, IPC High Density)
footprint PLQP0032GB-A_M (QFP, 32-Leads, Body 7x7mm, Pitch 0.8mm, IPC Low Density)
pins: 1 VREF/P4_2 (in), 2 MODE (in), 3 ~{RESET} (in), 4 XOUT/P4_7, 5 VSS/AVSS (power), 6 XIN/P4_6 (in), 7 VCC/AVCC (power), 8 P3_3/~{INT3}/TRCCLK (io), 9 P2_7/TRDIOD1 (io), 10 P2_6/TRDIOC1 (io), 11 P2_5/TRDIOB1 (io), 12 P2_4/TRDIOA1 (io), 13 P2_3/TRDIOD0 (io), 14 P2_1/TRDIOB0 (io), 15 P2_2/TRDIOC0 (io), 16 P2_0/TRDIOA0/TRDCLK (io), 17 P4_5/~{INT0} (io), 18 P1_7/TRAIO/~{INT1} (io), 19 P1_6/CLK0 (io), 20 P1_5/RXD0/(TRAIO)/(~{INT1}) (io), 21 P1_4/TXD0 (io), 22 P1_3/~{KI3}/AN11/TRBO (io), 23 P1_2/~{KI2}/AN10/TRCIOB (io), 24 P1_1/~{KI1}/AN9/TRCIOA/TRCTRG (io), 25 P1_0/~{KI0}/AN8 (io), 26 P3_4/TRCIOC (io), 27 P3_5/TRCIOD (io), 28 P0_5/AN2 (io), 29 P0_3/AN4/CLK2 (io), 30 P0_2/AN5/RXD2 (io), 31 P0_1/AN6/TXD2 (io), 32 P0_0/AN7 (io)

## R5F212K2SNFP
designator U?
R8C/2K Group Single Chip 16-Bit CMOS MCU, 8K ROM, 1K RAM, N Version; Published: 30-Oct-2009; DatasheetVersion: Rev.1.10, Dec-2007; PackageVersion: Oct-2005; PackageReference: PLQP0032GB-A; Publisher: Altium Limited; PackageDescription: 32-Pin Plastic Low Profile QFP, 7 x 7 x 1.4 mm Body, 0.8 mm Pitch; Code_JEITA: P-LQFP32-7x7-0.80; ComponentLink1Description: Manufacturer Link; ComponentLink1URL: http://sg.renesas.com/fmwk.jsp?cnt=r8c_family_landing.jsp&fp=/products/mpumcu/r8c_family/; ComponentLink2Description: Datasheet; ComponentLink2URL: http://documentation.renesas.com/eng/products/mpumcu/rej03b0219_r8c2k2lds.pdf; ComponentLink3Description: Packaging Specification; ComponentLink3URL: http://sg.renesas.com/media/products/common_info/package/pdf/ic/code/plqp0032gb_a.pdf
footprint PLQP0032GB-A_N (QFP, 32-Leads, Body 7x7mm, Pitch 0.8mm, IPC Medium Density)
footprint PLQP0032GB-A_L (QFP, 32-Leads, Body 7x7mm, Pitch 0.8mm, IPC High Density)
footprint PLQP0032GB-A_M (QFP, 32-Leads, Body 7x7mm, Pitch 0.8mm, IPC Low Density)
pins: 1 VREF/P4_2 (in), 2 MODE (in), 3 ~{RESET} (in), 4 XOUT/P4_7, 5 VSS/AVSS (power), 6 XIN/P4_6 (in), 7 VCC/AVCC (power), 8 P3_3/~{INT3}/TRCCLK (io), 9 P2_7/TRDIOD1 (io), 10 P2_6/TRDIOC1 (io), 11 P2_5/TRDIOB1 (io), 12 P2_4/TRDIOA1 (io), 13 P2_3/TRDIOD0 (io), 14 P2_1/TRDIOB0 (io), 15 P2_2/TRDIOC0 (io), 16 P2_0/TRDIOA0/TRDCLK (io), 17 P4_5/~{INT0} (io), 18 P1_7/TRAIO/~{INT1} (io), 19 P1_6/CLK0 (io), 20 P1_5/RXD0/(TRAIO)/(~{INT1}) (io), 21 P1_4/TXD0 (io), 22 P1_3/~{KI3}/AN11/TRBO (io), 23 P1_2/~{KI2}/AN10/TRCIOB (io), 24 P1_1/~{KI1}/AN9/TRCIOA/TRCTRG (io), 25 P1_0/~{KI0}/AN8 (io), 26 P3_4/TRCIOC (io), 27 P3_5/TRCIOD (io), 28 P0_5/AN2 (io), 29 P0_3/AN4/CLK2 (io), 30 P0_2/AN5/RXD2 (io), 31 P0_1/AN6/TXD2 (io), 32 P0_0/AN7 (io)

## R5F212K4SDFP
designator U?
R8C/2K Group Single Chip 16-Bit CMOS MCU, 16K ROM, 1.5K RAM, D Version; Published: 30-Oct-2009; DatasheetVersion: Rev.1.10, Dec-2007; PackageVersion: Oct-2005; PackageReference: PLQP0032GB-A; Publisher: Altium Limited; PackageDescription: 32-Pin Plastic Low Profile QFP, 7 x 7 x 1.4 mm Body, 0.8 mm Pitch; Code_JEITA: P-LQFP32-7x7-0.80; ComponentLink1Description: Manufacturer Link; ComponentLink1URL: http://sg.renesas.com/fmwk.jsp?cnt=r8c_family_landing.jsp&fp=/products/mpumcu/r8c_family/; ComponentLink2Description: Datasheet; ComponentLink2URL: http://documentation.renesas.com/eng/products/mpumcu/rej03b0219_r8c2k2lds.pdf; ComponentLink3Description: Packaging Specification; ComponentLink3URL: http://sg.renesas.com/media/products/common_info/package/pdf/ic/code/plqp0032gb_a.pdf
footprint PLQP0032GB-A_N (QFP, 32-Leads, Body 7x7mm, Pitch 0.8mm, IPC Medium Density)
footprint PLQP0032GB-A_L (QFP, 32-Leads, Body 7x7mm, Pitch 0.8mm, IPC High Density)
footprint PLQP0032GB-A_M (QFP, 32-Leads, Body 7x7mm, Pitch 0.8mm, IPC Low Density)
pins: 1 VREF/P4_2 (in), 2 MODE (in), 3 ~{RESET} (in), 4 XOUT/P4_7, 5 VSS/AVSS (power), 6 XIN/P4_6 (in), 7 VCC/AVCC (power), 8 P3_3/~{INT3}/TRCCLK (io), 9 P2_7/TRDIOD1 (io), 10 P2_6/TRDIOC1 (io), 11 P2_5/TRDIOB1 (io), 12 P2_4/TRDIOA1 (io), 13 P2_3/TRDIOD0 (io), 14 P2_1/TRDIOB0 (io), 15 P2_2/TRDIOC0 (io), 16 P2_0/TRDIOA0/TRDCLK (io), 17 P4_5/~{INT0} (io), 18 P1_7/TRAIO/~{INT1} (io), 19 P1_6/CLK0 (io), 20 P1_5/RXD0/(TRAIO)/(~{INT1}) (io), 21 P1_4/TXD0 (io), 22 P1_3/~{KI3}/AN11/TRBO (io), 23 P1_2/~{KI2}/AN10/TRCIOB (io), 24 P1_1/~{KI1}/AN9/TRCIOA/TRCTRG (io), 25 P1_0/~{KI0}/AN8 (io), 26 P3_4/TRCIOC (io), 27 P3_5/TRCIOD (io), 28 P0_5/AN2 (io), 29 P0_3/AN4/CLK2 (io), 30 P0_2/AN5/RXD2 (io), 31 P0_1/AN6/TXD2 (io), 32 P0_0/AN7 (io)

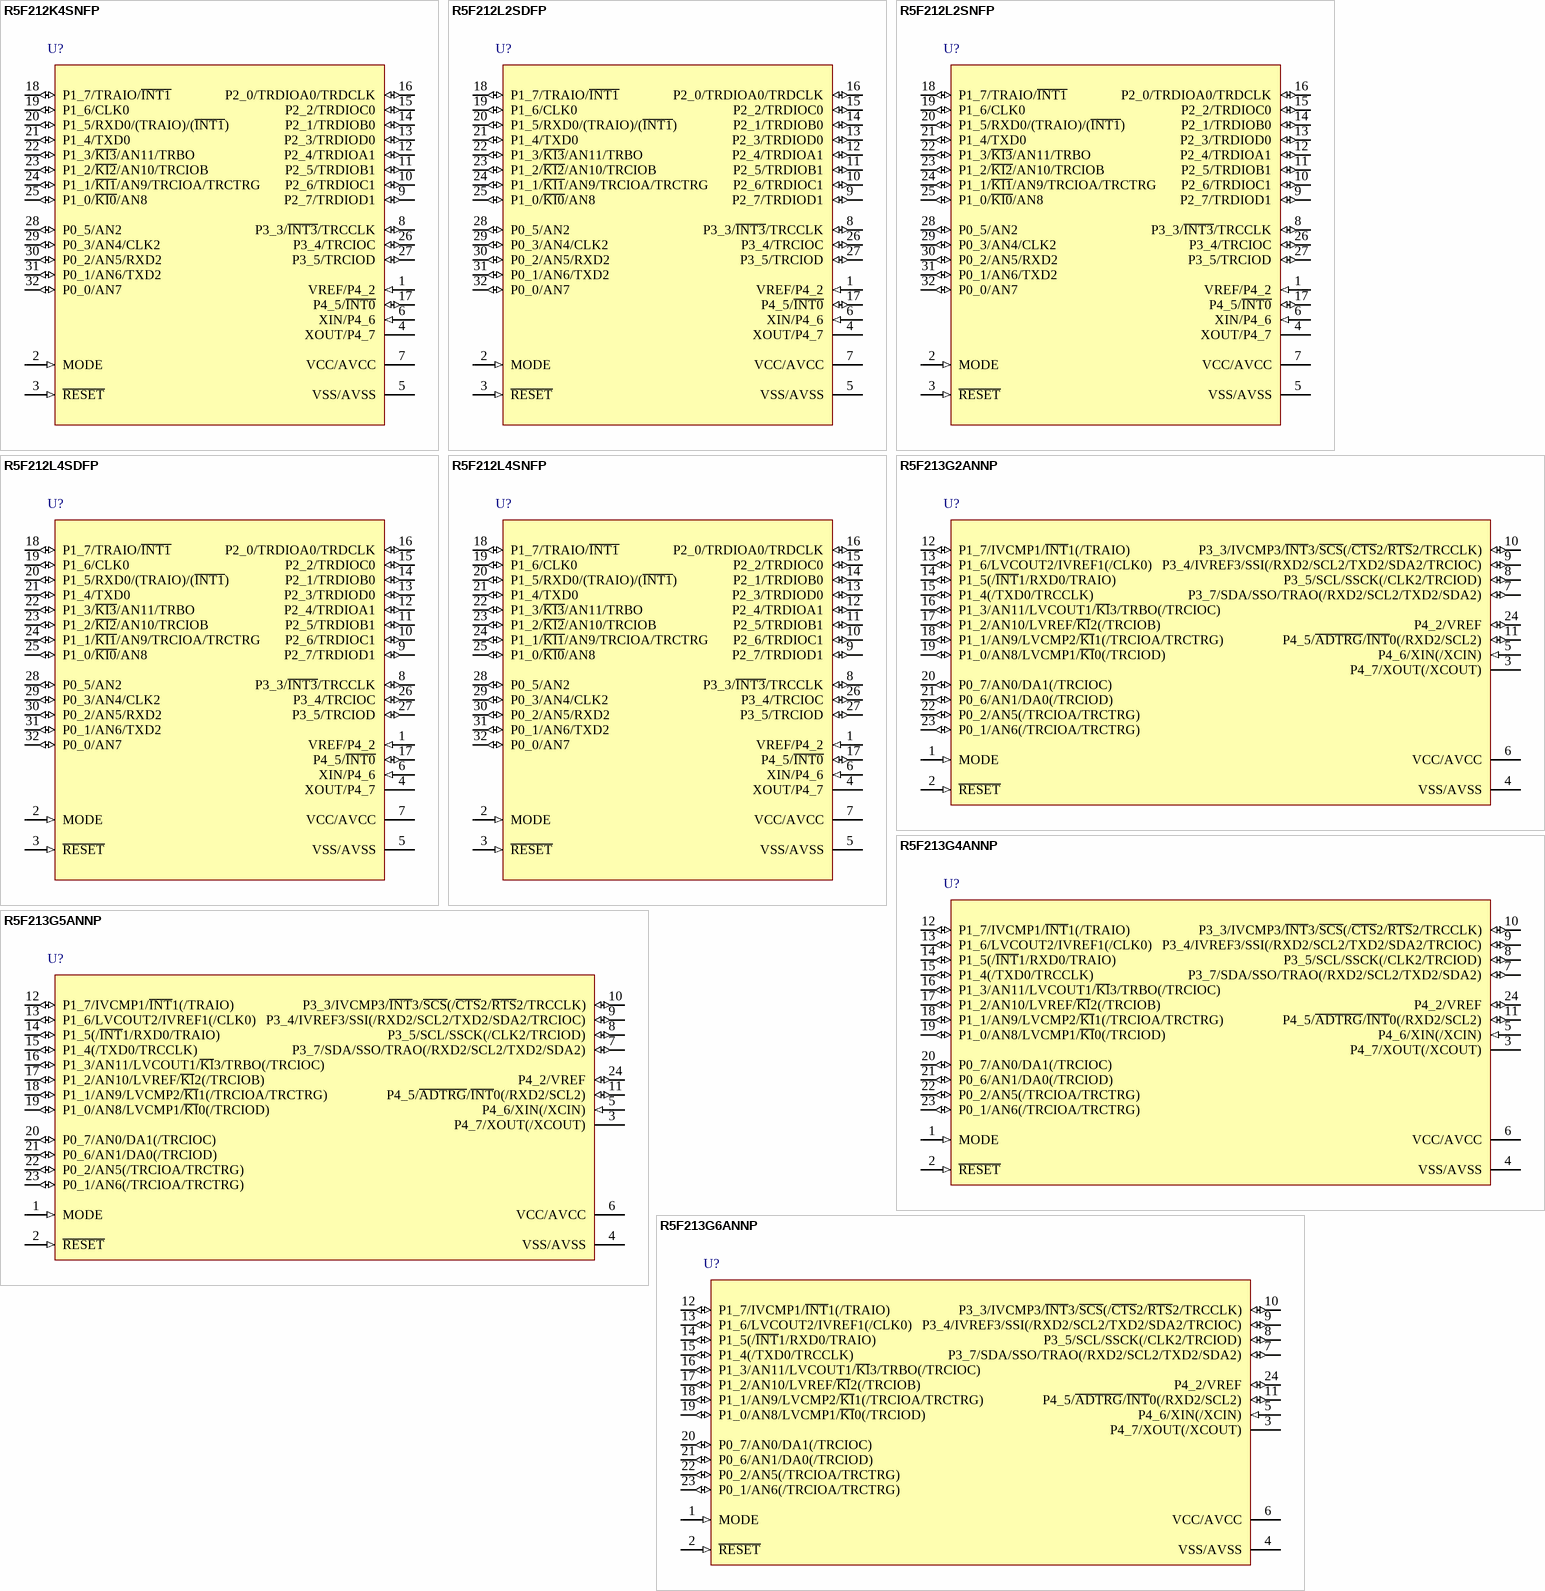
[diagram p56: symbols R5F212K4SNFP to R5F213G6ANNP]

## R5F212K4SNFP
designator U?
R8C/2K Group Single Chip 16-Bit CMOS MCU, 16K ROM, 1.5K RAM, N Version; Published: 30-Oct-2009; DatasheetVersion: Rev.1.10, Dec-2007; PackageVersion: Oct-2005; PackageReference: PLQP0032GB-A; Publisher: Altium Limited; PackageDescription: 32-Pin Plastic Low Profile QFP, 7 x 7 x 1.4 mm Body, 0.8 mm Pitch; Code_JEITA: P-LQFP32-7x7-0.80; ComponentLink1Description: Manufacturer Link; ComponentLink1URL: http://sg.renesas.com/fmwk.jsp?cnt=r8c_family_landing.jsp&fp=/products/mpumcu/r8c_family/; ComponentLink2Description: Datasheet; ComponentLink2URL: http://documentation.renesas.com/eng/products/mpumcu/rej03b0219_r8c2k2lds.pdf; ComponentLink3Description: Packaging Specification; ComponentLink3URL: http://sg.renesas.com/media/products/common_info/package/pdf/ic/code/plqp0032gb_a.pdf
footprint PLQP0032GB-A_N (QFP, 32-Leads, Body 7x7mm, Pitch 0.8mm, IPC Medium Density)
footprint PLQP0032GB-A_L (QFP, 32-Leads, Body 7x7mm, Pitch 0.8mm, IPC High Density)
footprint PLQP0032GB-A_M (QFP, 32-Leads, Body 7x7mm, Pitch 0.8mm, IPC Low Density)
pins: 1 VREF/P4_2 (in), 2 MODE (in), 3 ~{RESET} (in), 4 XOUT/P4_7, 5 VSS/AVSS (power), 6 XIN/P4_6 (in), 7 VCC/AVCC (power), 8 P3_3/~{INT3}/TRCCLK (io), 9 P2_7/TRDIOD1 (io), 10 P2_6/TRDIOC1 (io), 11 P2_5/TRDIOB1 (io), 12 P2_4/TRDIOA1 (io), 13 P2_3/TRDIOD0 (io), 14 P2_1/TRDIOB0 (io), 15 P2_2/TRDIOC0 (io), 16 P2_0/TRDIOA0/TRDCLK (io), 17 P4_5/~{INT0} (io), 18 P1_7/TRAIO/~{INT1} (io), 19 P1_6/CLK0 (io), 20 P1_5/RXD0/(TRAIO)/(~{INT1}) (io), 21 P1_4/TXD0 (io), 22 P1_3/~{KI3}/AN11/TRBO (io), 23 P1_2/~{KI2}/AN10/TRCIOB (io), 24 P1_1/~{KI1}/AN9/TRCIOA/TRCTRG (io), 25 P1_0/~{KI0}/AN8 (io), 26 P3_4/TRCIOC (io), 27 P3_5/TRCIOD (io), 28 P0_5/AN2 (io), 29 P0_3/AN4/CLK2 (io), 30 P0_2/AN5/RXD2 (io), 31 P0_1/AN6/TXD2 (io), 32 P0_0/AN7 (io)

## R5F212L2SDFP
designator U?
R8C/2L Group Single Chip 16-Bit CMOS MCU, 8K ROM + 1K x2 Data Flash, 1K RAM, D Version; Published: 30-Oct-2009; DatasheetVersion: Rev.1.10, Dec-2007; PackageVersion: Oct-2005; PackageReference: PLQP0032GB-A; Publisher: Altium Limited; PackageDescription: 32-Pin Plastic Low Profile QFP, 7 x 7 x 1.4 mm Body, 0.8 mm Pitch; Code_JEITA: P-LQFP32-7x7-0.80; ComponentLink1Description: Manufacturer Link; ComponentLink1URL: http://sg.renesas.com/fmwk.jsp?cnt=r8c_family_landing.jsp&fp=/products/mpumcu/r8c_family/; ComponentLink2Description: Datasheet; ComponentLink2URL: http://documentation.renesas.com/eng/products/mpumcu/rej03b0219_r8c2k2lds.pdf; ComponentLink3Description: Packaging Specification; ComponentLink3URL: http://sg.renesas.com/media/products/common_info/package/pdf/ic/code/plqp0032gb_a.pdf
footprint PLQP0032GB-A_N (QFP, 32-Leads, Body 7x7mm, Pitch 0.8mm, IPC Medium Density)
footprint PLQP0032GB-A_L (QFP, 32-Leads, Body 7x7mm, Pitch 0.8mm, IPC High Density)
footprint PLQP0032GB-A_M (QFP, 32-Leads, Body 7x7mm, Pitch 0.8mm, IPC Low Density)
pins: 1 VREF/P4_2 (in), 2 MODE (in), 3 ~{RESET} (in), 4 XOUT/P4_7, 5 VSS/AVSS (power), 6 XIN/P4_6 (in), 7 VCC/AVCC (power), 8 P3_3/~{INT3}/TRCCLK (io), 9 P2_7/TRDIOD1 (io), 10 P2_6/TRDIOC1 (io), 11 P2_5/TRDIOB1 (io), 12 P2_4/TRDIOA1 (io), 13 P2_3/TRDIOD0 (io), 14 P2_1/TRDIOB0 (io), 15 P2_2/TRDIOC0 (io), 16 P2_0/TRDIOA0/TRDCLK (io), 17 P4_5/~{INT0} (io), 18 P1_7/TRAIO/~{INT1} (io), 19 P1_6/CLK0 (io), 20 P1_5/RXD0/(TRAIO)/(~{INT1}) (io), 21 P1_4/TXD0 (io), 22 P1_3/~{KI3}/AN11/TRBO (io), 23 P1_2/~{KI2}/AN10/TRCIOB (io), 24 P1_1/~{KI1}/AN9/TRCIOA/TRCTRG (io), 25 P1_0/~{KI0}/AN8 (io), 26 P3_4/TRCIOC (io), 27 P3_5/TRCIOD (io), 28 P0_5/AN2 (io), 29 P0_3/AN4/CLK2 (io), 30 P0_2/AN5/RXD2 (io), 31 P0_1/AN6/TXD2 (io), 32 P0_0/AN7 (io)

## R5F212L2SNFP
designator U?
R8C/2L Group Single Chip 16-Bit CMOS MCU, 8K ROM + 1K x2 Data Flash, 1K RAM, N Version; Published: 30-Oct-2009; DatasheetVersion: Rev.1.10, Dec-2007; PackageVersion: Oct-2005; PackageReference: PLQP0032GB-A; Publisher: Altium Limited; PackageDescription: 32-Pin Plastic Low Profile QFP, 7 x 7 x 1.4 mm Body, 0.8 mm Pitch; Code_JEITA: P-LQFP32-7x7-0.80; ComponentLink1Description: Manufacturer Link; ComponentLink1URL: http://sg.renesas.com/fmwk.jsp?cnt=r8c_family_landing.jsp&fp=/products/mpumcu/r8c_family/; ComponentLink2Description: Datasheet; ComponentLink2URL: http://documentation.renesas.com/eng/products/mpumcu/rej03b0219_r8c2k2lds.pdf; ComponentLink3Description: Packaging Specification; ComponentLink3URL: http://sg.renesas.com/media/products/common_info/package/pdf/ic/code/plqp0032gb_a.pdf
footprint PLQP0032GB-A_N (QFP, 32-Leads, Body 7x7mm, Pitch 0.8mm, IPC Medium Density)
footprint PLQP0032GB-A_L (QFP, 32-Leads, Body 7x7mm, Pitch 0.8mm, IPC High Density)
footprint PLQP0032GB-A_M (QFP, 32-Leads, Body 7x7mm, Pitch 0.8mm, IPC Low Density)
pins: 1 VREF/P4_2 (in), 2 MODE (in), 3 ~{RESET} (in), 4 XOUT/P4_7, 5 VSS/AVSS (power), 6 XIN/P4_6 (in), 7 VCC/AVCC (power), 8 P3_3/~{INT3}/TRCCLK (io), 9 P2_7/TRDIOD1 (io), 10 P2_6/TRDIOC1 (io), 11 P2_5/TRDIOB1 (io), 12 P2_4/TRDIOA1 (io), 13 P2_3/TRDIOD0 (io), 14 P2_1/TRDIOB0 (io), 15 P2_2/TRDIOC0 (io), 16 P2_0/TRDIOA0/TRDCLK (io), 17 P4_5/~{INT0} (io), 18 P1_7/TRAIO/~{INT1} (io), 19 P1_6/CLK0 (io), 20 P1_5/RXD0/(TRAIO)/(~{INT1}) (io), 21 P1_4/TXD0 (io), 22 P1_3/~{KI3}/AN11/TRBO (io), 23 P1_2/~{KI2}/AN10/TRCIOB (io), 24 P1_1/~{KI1}/AN9/TRCIOA/TRCTRG (io), 25 P1_0/~{KI0}/AN8 (io), 26 P3_4/TRCIOC (io), 27 P3_5/TRCIOD (io), 28 P0_5/AN2 (io), 29 P0_3/AN4/CLK2 (io), 30 P0_2/AN5/RXD2 (io), 31 P0_1/AN6/TXD2 (io), 32 P0_0/AN7 (io)

## R5F212L4SDFP
designator U?
R8C/2L Group Single Chip 16-Bit CMOS MCU, 16K ROM + 1K x2 Data Flash, 1.5K RAM, D Version; Published: 30-Oct-2009; DatasheetVersion: Rev.1.10, Dec-2007; PackageVersion: Oct-2005; PackageReference: PLQP0032GB-A; Publisher: Altium Limited; PackageDescription: 32-Pin Plastic Low Profile QFP, 7 x 7 x 1.4 mm Body, 0.8 mm Pitch; Code_JEITA: P-LQFP32-7x7-0.80; ComponentLink1Description: Manufacturer Link; ComponentLink1URL: http://sg.renesas.com/fmwk.jsp?cnt=r8c_family_landing.jsp&fp=/products/mpumcu/r8c_family/; ComponentLink2Description: Datasheet; ComponentLink2URL: http://documentation.renesas.com/eng/products/mpumcu/rej03b0219_r8c2k2lds.pdf; ComponentLink3Description: Packaging Specification; ComponentLink3URL: http://sg.renesas.com/media/products/common_info/package/pdf/ic/code/plqp0032gb_a.pdf
footprint PLQP0032GB-A_N (QFP, 32-Leads, Body 7x7mm, Pitch 0.8mm, IPC Medium Density)
footprint PLQP0032GB-A_L (QFP, 32-Leads, Body 7x7mm, Pitch 0.8mm, IPC High Density)
footprint PLQP0032GB-A_M (QFP, 32-Leads, Body 7x7mm, Pitch 0.8mm, IPC Low Density)
pins: 1 VREF/P4_2 (in), 2 MODE (in), 3 ~{RESET} (in), 4 XOUT/P4_7, 5 VSS/AVSS (power), 6 XIN/P4_6 (in), 7 VCC/AVCC (power), 8 P3_3/~{INT3}/TRCCLK (io), 9 P2_7/TRDIOD1 (io), 10 P2_6/TRDIOC1 (io), 11 P2_5/TRDIOB1 (io), 12 P2_4/TRDIOA1 (io), 13 P2_3/TRDIOD0 (io), 14 P2_1/TRDIOB0 (io), 15 P2_2/TRDIOC0 (io), 16 P2_0/TRDIOA0/TRDCLK (io), 17 P4_5/~{INT0} (io), 18 P1_7/TRAIO/~{INT1} (io), 19 P1_6/CLK0 (io), 20 P1_5/RXD0/(TRAIO)/(~{INT1}) (io), 21 P1_4/TXD0 (io), 22 P1_3/~{KI3}/AN11/TRBO (io), 23 P1_2/~{KI2}/AN10/TRCIOB (io), 24 P1_1/~{KI1}/AN9/TRCIOA/TRCTRG (io), 25 P1_0/~{KI0}/AN8 (io), 26 P3_4/TRCIOC (io), 27 P3_5/TRCIOD (io), 28 P0_5/AN2 (io), 29 P0_3/AN4/CLK2 (io), 30 P0_2/AN5/RXD2 (io), 31 P0_1/AN6/TXD2 (io), 32 P0_0/AN7 (io)

## R5F212L4SNFP
designator U?
R8C/2L Group Single Chip 16-Bit CMOS MCU, 16K ROM + 1K x2 Data Flash, 1.5K RAM, N Version; Published: 30-Oct-2009; DatasheetVersion: Rev.1.10, Dec-2007; PackageVersion: Oct-2005; PackageReference: PLQP0032GB-A; Publisher: Altium Limited; PackageDescription: 32-Pin Plastic Low Profile QFP, 7 x 7 x 1.4 mm Body, 0.8 mm Pitch; Code_JEITA: P-LQFP32-7x7-0.80; ComponentLink1Description: Manufacturer Link; ComponentLink1URL: http://sg.renesas.com/fmwk.jsp?cnt=r8c_family_landing.jsp&fp=/products/mpumcu/r8c_family/; ComponentLink2Description: Datasheet; ComponentLink2URL: http://documentation.renesas.com/eng/products/mpumcu/rej03b0219_r8c2k2lds.pdf; ComponentLink3Description: Packaging Specification; ComponentLink3URL: http://sg.renesas.com/media/products/common_info/package/pdf/ic/code/plqp0032gb_a.pdf
footprint PLQP0032GB-A_N (QFP, 32-Leads, Body 7x7mm, Pitch 0.8mm, IPC Medium Density)
footprint PLQP0032GB-A_L (QFP, 32-Leads, Body 7x7mm, Pitch 0.8mm, IPC High Density)
footprint PLQP0032GB-A_M (QFP, 32-Leads, Body 7x7mm, Pitch 0.8mm, IPC Low Density)
pins: 1 VREF/P4_2 (in), 2 MODE (in), 3 ~{RESET} (in), 4 XOUT/P4_7, 5 VSS/AVSS (power), 6 XIN/P4_6 (in), 7 VCC/AVCC (power), 8 P3_3/~{INT3}/TRCCLK (io), 9 P2_7/TRDIOD1 (io), 10 P2_6/TRDIOC1 (io), 11 P2_5/TRDIOB1 (io), 12 P2_4/TRDIOA1 (io), 13 P2_3/TRDIOD0 (io), 14 P2_1/TRDIOB0 (io), 15 P2_2/TRDIOC0 (io), 16 P2_0/TRDIOA0/TRDCLK (io), 17 P4_5/~{INT0} (io), 18 P1_7/TRAIO/~{INT1} (io), 19 P1_6/CLK0 (io), 20 P1_5/RXD0/(TRAIO)/(~{INT1}) (io), 21 P1_4/TXD0 (io), 22 P1_3/~{KI3}/AN11/TRBO (io), 23 P1_2/~{KI2}/AN10/TRCIOB (io), 24 P1_1/~{KI1}/AN9/TRCIOA/TRCTRG (io), 25 P1_0/~{KI0}/AN8 (io), 26 P3_4/TRCIOC (io), 27 P3_5/TRCIOD (io), 28 P0_5/AN2 (io), 29 P0_3/AN4/CLK2 (io), 30 P0_2/AN5/RXD2 (io), 31 P0_1/AN6/TXD2 (io), 32 P0_0/AN7 (io)

## R5F213G2ANNP
designator U?
R8C/3GA Group Single Chip 16-Bit CMOS MCU, 8K + 4K ROM, 1K RAM, N Version; Published: 17-Feb-2010; DatasheetVersion: Rev.1.10, Sep-2009; PackageVersion: Feb-2009; PackageReference: PWQN0024KC-A; Publisher: Altium Limited; PackageDescription: 24-Pin Plastic Very-very Thin QFN, 4 x 4 x 0.75 mm Body, 0.5 mm Pitch, Exposed Pad; Code_JEITA: P-HWQFN24-4x4-0.50; ComponentLink1Description: Manufacturer Link; ComponentLink1URL: http://sg.renesas.com/fmwk.jsp?cnt=r8c_family_landing.jsp&fp=/products/mpumcu/r8c_family/; ComponentLink2Description: Datasheet; ComponentLink2URL: http://documentation.renesas.com/eng/products/mpumcu/rej03b0235_r8c3gads.pdf; ComponentLink3Description: Packaging Specification; ComponentLink3URL: http://sg.renesas.com/media/products/common_info/package/pdf/ic/code/pwqn0024kc_a.pdf
footprint PWQN0024KC-A_N (QFN, 24-Leads, Body 4x4mm, Pitch 0.5mm, IPC Medium Density)
footprint PWQN0024KC-A_L (QFN, 24-Leads, Body 4x4mm, Pitch 0.5mm, IPC High Density)
footprint PWQN0024KC-A_M (QFN, 24-Leads, Body 4x4mm, Pitch 0.5mm, IPC Low Density)
pins: 1 MODE (in), 2 ~{RESET} (in), 3 P4_7/XOUT(/XCOUT), 4 VSS/AVSS (power), 5 P4_6/XIN(/XCIN) (in), 6 VCC/AVCC (power), 7 P3_7/SDA/SSO/TRAO(/RXD2/SCL2/TXD2/SDA2) (io), 8 P3_5/SCL/SSCK(/CLK2/TRCIOD) (io), 9 P3_4/IVREF3/SSI(/RXD2/SCL2/TXD2/SDA2/TRCIOC) (io), 10 P3_3/IVCMP3/~{INT}3/~{SCS}(/~{CTS}2/~{RTS}2/TRCCLK) (io), 11 P4_5/~{ADTRG}/~{INT}0(/RXD2/SCL2) (io), 12 P1_7/IVCMP1/~{INT}1(/TRAIO) (io), 13 P1_6/LVCOUT2/IVREF1(/CLK0) (io), 14 P1_5(/~{INT}1/RXD0/TRAIO) (io), 15 P1_4(/TXD0/TRCCLK) (io), 16 P1_3/AN11/LVCOUT1/~{Kl}3/TRBO(/TRCIOC) (io), 17 P1_2/AN10/LVREF/~{Kl}2(/TRCIOB) (io), 18 P1_1/AN9/LVCMP2/~{KI}1(/TRCIOA/TRCTRG) (io), 19 P1_0/AN8/LVCMP1/~{KI}0(/TRCIOD) (io), 20 P0_7/AN0/DA1(/TRCIOC) (io), 21 P0_6/AN1/DA0(/TRCIOD) (io), 22 P0_2/AN5(/TRCIOA/TRCTRG) (io), 23 P0_1/AN6(/TRCIOA/TRCTRG) (io), 24 P4_2/VREF (io)

## R5F213G4ANNP
designator U?
R8C/3GA Group Single Chip 16-Bit CMOS MCU, 16K + 4K ROM, 1.5K RAM, N Version; Published: 17-Feb-2010; DatasheetVersion: Rev.1.10, Sep-2009; PackageVersion: Feb-2009; PackageReference: PWQN0024KC-A; Publisher: Altium Limited; PackageDescription: 24-Pin Plastic Very-very Thin QFN, 4 x 4 x 0.75 mm Body, 0.5 mm Pitch, Exposed Pad; Code_JEITA: P-HWQFN24-4x4-0.50; ComponentLink1Description: Manufacturer Link; ComponentLink1URL: http://sg.renesas.com/fmwk.jsp?cnt=r8c_family_landing.jsp&fp=/products/mpumcu/r8c_family/; ComponentLink2Description: Datasheet; ComponentLink2URL: http://documentation.renesas.com/eng/products/mpumcu/rej03b0235_r8c3gads.pdf; ComponentLink3Description: Packaging Specification; ComponentLink3URL: http://sg.renesas.com/media/products/common_info/package/pdf/ic/code/pwqn0024kc_a.pdf
footprint PWQN0024KC-A_N (QFN, 24-Leads, Body 4x4mm, Pitch 0.5mm, IPC Medium Density)
footprint PWQN0024KC-A_L (QFN, 24-Leads, Body 4x4mm, Pitch 0.5mm, IPC High Density)
footprint PWQN0024KC-A_M (QFN, 24-Leads, Body 4x4mm, Pitch 0.5mm, IPC Low Density)
pins: 1 MODE (in), 2 ~{RESET} (in), 3 P4_7/XOUT(/XCOUT), 4 VSS/AVSS (power), 5 P4_6/XIN(/XCIN) (in), 6 VCC/AVCC (power), 7 P3_7/SDA/SSO/TRAO(/RXD2/SCL2/TXD2/SDA2) (io), 8 P3_5/SCL/SSCK(/CLK2/TRCIOD) (io), 9 P3_4/IVREF3/SSI(/RXD2/SCL2/TXD2/SDA2/TRCIOC) (io), 10 P3_3/IVCMP3/~{INT}3/~{SCS}(/~{CTS}2/~{RTS}2/TRCCLK) (io), 11 P4_5/~{ADTRG}/~{INT}0(/RXD2/SCL2) (io), 12 P1_7/IVCMP1/~{INT}1(/TRAIO) (io), 13 P1_6/LVCOUT2/IVREF1(/CLK0) (io), 14 P1_5(/~{INT}1/RXD0/TRAIO) (io), 15 P1_4(/TXD0/TRCCLK) (io), 16 P1_3/AN11/LVCOUT1/~{Kl}3/TRBO(/TRCIOC) (io), 17 P1_2/AN10/LVREF/~{Kl}2(/TRCIOB) (io), 18 P1_1/AN9/LVCMP2/~{KI}1(/TRCIOA/TRCTRG) (io), 19 P1_0/AN8/LVCMP1/~{KI}0(/TRCIOD) (io), 20 P0_7/AN0/DA1(/TRCIOC) (io), 21 P0_6/AN1/DA0(/TRCIOD) (io), 22 P0_2/AN5(/TRCIOA/TRCTRG) (io), 23 P0_1/AN6(/TRCIOA/TRCTRG) (io), 24 P4_2/VREF (io)

## R5F213G5ANNP
designator U?
R8C/3GA Group Single Chip 16-Bit CMOS MCU, 24K + 4K ROM, 2K RAM, N Version; Published: 17-Feb-2010; DatasheetVersion: Rev.1.10, Sep-2009; PackageVersion: Feb-2009; PackageReference: PWQN0024KC-A; Publisher: Altium Limited; PackageDescription: 24-Pin Plastic Very-very Thin QFN, 4 x 4 x 0.75 mm Body, 0.5 mm Pitch, Exposed Pad; Code_JEITA: P-HWQFN24-4x4-0.50; ComponentLink1Description: Manufacturer Link; ComponentLink1URL: http://sg.renesas.com/fmwk.jsp?cnt=r8c_family_landing.jsp&fp=/products/mpumcu/r8c_family/; ComponentLink2Description: Datasheet; ComponentLink2URL: http://documentation.renesas.com/eng/products/mpumcu/rej03b0235_r8c3gads.pdf; ComponentLink3Description: Packaging Specification; ComponentLink3URL: http://sg.renesas.com/media/products/common_info/package/pdf/ic/code/pwqn0024kc_a.pdf
footprint PWQN0024KC-A_N (QFN, 24-Leads, Body 4x4mm, Pitch 0.5mm, IPC Medium Density)
footprint PWQN0024KC-A_L (QFN, 24-Leads, Body 4x4mm, Pitch 0.5mm, IPC High Density)
footprint PWQN0024KC-A_M (QFN, 24-Leads, Body 4x4mm, Pitch 0.5mm, IPC Low Density)
pins: 1 MODE (in), 2 ~{RESET} (in), 3 P4_7/XOUT(/XCOUT), 4 VSS/AVSS (power), 5 P4_6/XIN(/XCIN) (in), 6 VCC/AVCC (power), 7 P3_7/SDA/SSO/TRAO(/RXD2/SCL2/TXD2/SDA2) (io), 8 P3_5/SCL/SSCK(/CLK2/TRCIOD) (io), 9 P3_4/IVREF3/SSI(/RXD2/SCL2/TXD2/SDA2/TRCIOC) (io), 10 P3_3/IVCMP3/~{INT}3/~{SCS}(/~{CTS}2/~{RTS}2/TRCCLK) (io), 11 P4_5/~{ADTRG}/~{INT}0(/RXD2/SCL2) (io), 12 P1_7/IVCMP1/~{INT}1(/TRAIO) (io), 13 P1_6/LVCOUT2/IVREF1(/CLK0) (io), 14 P1_5(/~{INT}1/RXD0/TRAIO) (io), 15 P1_4(/TXD0/TRCCLK) (io), 16 P1_3/AN11/LVCOUT1/~{Kl}3/TRBO(/TRCIOC) (io), 17 P1_2/AN10/LVREF/~{Kl}2(/TRCIOB) (io), 18 P1_1/AN9/LVCMP2/~{KI}1(/TRCIOA/TRCTRG) (io), 19 P1_0/AN8/LVCMP1/~{KI}0(/TRCIOD) (io), 20 P0_7/AN0/DA1(/TRCIOC) (io), 21 P0_6/AN1/DA0(/TRCIOD) (io), 22 P0_2/AN5(/TRCIOA/TRCTRG) (io), 23 P0_1/AN6(/TRCIOA/TRCTRG) (io), 24 P4_2/VREF (io)

## R5F213G6ANNP
designator U?
R8C/3GA Group Single Chip 16-Bit CMOS MCU, 32K + 4K ROM, 2.5K RAM, N Version; Published: 17-Feb-2010; DatasheetVersion: Rev.1.10, Sep-2009; PackageVersion: Feb-2009; PackageReference: PWQN0024KC-A; Publisher: Altium Limited; PackageDescription: 24-Pin Plastic Very-very Thin QFN, 4 x 4 x 0.75 mm Body, 0.5 mm Pitch, Exposed Pad; Code_JEITA: P-HWQFN24-4x4-0.50; ComponentLink1Description: Manufacturer Link; ComponentLink1URL: http://sg.renesas.com/fmwk.jsp?cnt=r8c_family_landing.jsp&fp=/products/mpumcu/r8c_family/; ComponentLink2Description: Datasheet; ComponentLink2URL: http://documentation.renesas.com/eng/products/mpumcu/rej03b0235_r8c3gads.pdf; ComponentLink3Description: Packaging Specification; ComponentLink3URL: http://sg.renesas.com/media/products/common_info/package/pdf/ic/code/pwqn0024kc_a.pdf
footprint PWQN0024KC-A_N (QFN, 24-Leads, Body 4x4mm, Pitch 0.5mm, IPC Medium Density)
footprint PWQN0024KC-A_L (QFN, 24-Leads, Body 4x4mm, Pitch 0.5mm, IPC High Density)
footprint PWQN0024KC-A_M (QFN, 24-Leads, Body 4x4mm, Pitch 0.5mm, IPC Low Density)
pins: 1 MODE (in), 2 ~{RESET} (in), 3 P4_7/XOUT(/XCOUT), 4 VSS/AVSS (power), 5 P4_6/XIN(/XCIN) (in), 6 VCC/AVCC (power), 7 P3_7/SDA/SSO/TRAO(/RXD2/SCL2/TXD2/SDA2) (io), 8 P3_5/SCL/SSCK(/CLK2/TRCIOD) (io), 9 P3_4/IVREF3/SSI(/RXD2/SCL2/TXD2/SDA2/TRCIOC) (io), 10 P3_3/IVCMP3/~{INT}3/~{SCS}(/~{CTS}2/~{RTS}2/TRCCLK) (io), 11 P4_5/~{ADTRG}/~{INT}0(/RXD2/SCL2) (io), 12 P1_7/IVCMP1/~{INT}1(/TRAIO) (io), 13 P1_6/LVCOUT2/IVREF1(/CLK0) (io), 14 P1_5(/~{INT}1/RXD0/TRAIO) (io), 15 P1_4(/TXD0/TRCCLK) (io), 16 P1_3/AN11/LVCOUT1/~{Kl}3/TRBO(/TRCIOC) (io), 17 P1_2/AN10/LVREF/~{Kl}2(/TRCIOB) (io), 18 P1_1/AN9/LVCMP2/~{KI}1(/TRCIOA/TRCTRG) (io), 19 P1_0/AN8/LVCMP1/~{KI}0(/TRCIOD) (io), 20 P0_7/AN0/DA1(/TRCIOC) (io), 21 P0_6/AN1/DA0(/TRCIOD) (io), 22 P0_2/AN5(/TRCIOA/TRCTRG) (io), 23 P0_1/AN6(/TRCIOA/TRCTRG) (io), 24 P4_2/VREF (io)

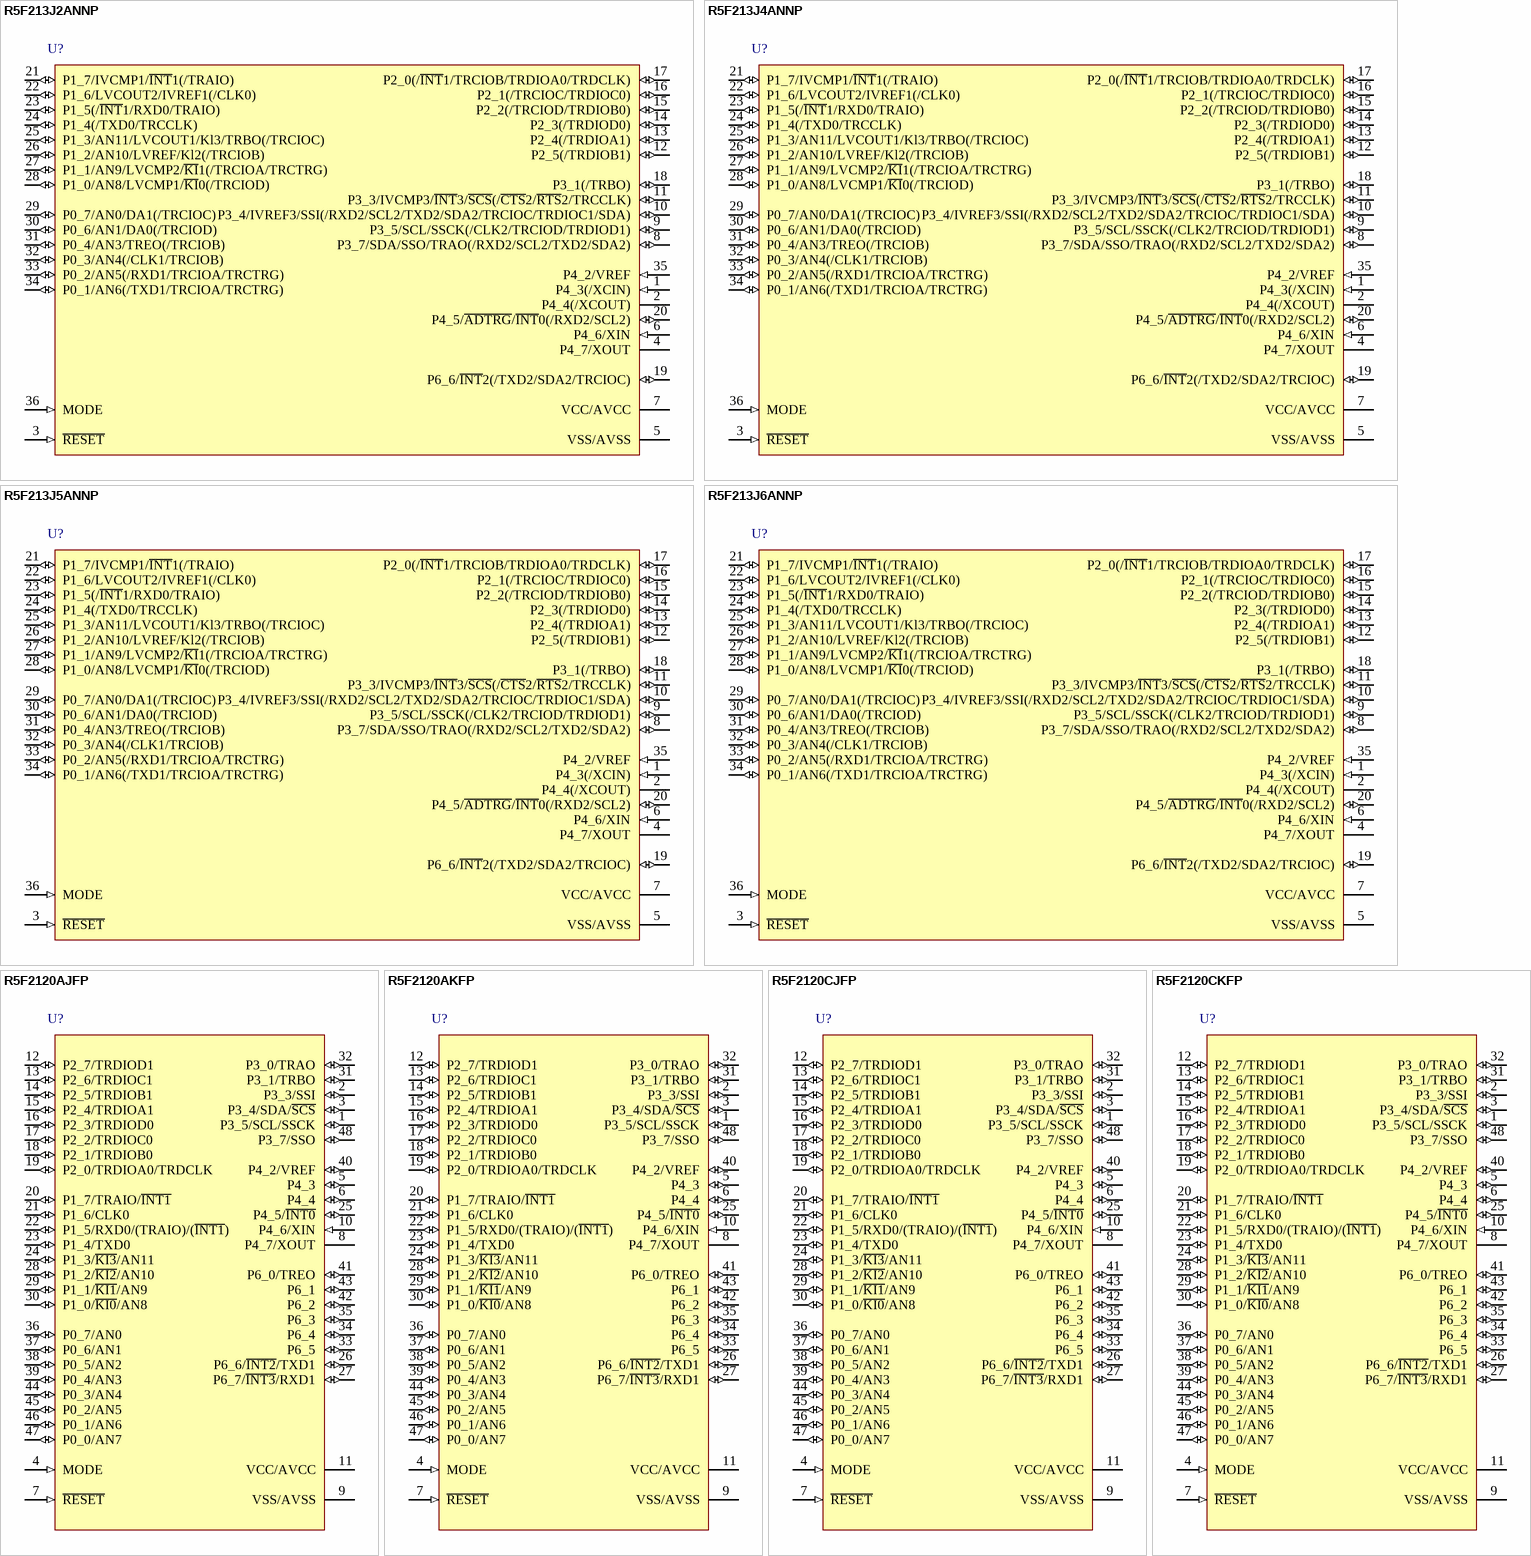
[diagram p57: symbols R5F213J2ANNP to R5F2120CKFP]

## R5F213J2ANNP
designator U?
R8C/3JA Group Single Chip 16-Bit CMOS MCU, 8K + 4K ROM, 1K RAM, N Version; Published: 17-Feb-2010; DatasheetVersion: Rev.1.10, Sep-2009; PackageVersion: Jun-2006; PackageReference: PWQN0036KA-B; Publisher: Altium Limited; PackageDescription: 36-Pin Plastic Very-very Thin QFN, 6 x 6 X 0.75 mm Body, 0.5 mm Pitch, Exposed Pad; Code_JEITA: P-HWQFN36-6x6-0.50; ComponentLink1Description: Manufacturer Link; ComponentLink1URL: http://sg.renesas.com/fmwk.jsp?cnt=r8c_family_landing.jsp&fp=/products/mpumcu/r8c_family/; ComponentLink2Description: Datasheet; ComponentLink2URL: http://documentation.renesas.com/eng/products/mpumcu/rej03b0263_r8c3jads.pdf; ComponentLink3Description: Packaging Specification; ComponentLink3URL: http://sg.renesas.com/media/products/common_info/package/pdf/ic/code/pwqn0036ka_b.pdf
footprint PWQN0036KA-B_N (QFN, 36-Leads, Body 6x6mm, Pitch 0.5mm, IPC Medium Density)
footprint PWQN0036KA-B_L (QFN, 36-Leads, Body 6x6mm, Pitch 0.5mm, IPC High Density)
footprint PWQN0036KA-B_M (QFN, 36-Leads, Body 6x6mm, Pitch 0.5mm, IPC Low Density)
pins: 1 P4_3(/XCIN) (in), 2 P4_4(/XCOUT), 3 ~{RESET} (in), 4 P4_7/XOUT, 5 VSS/AVSS (power), 6 P4_6/XIN (in), 7 VCC/AVCC (power), 8 P3_7/SDA/SSO/TRAO(/RXD2/SCL2/TXD2/SDA2) (io), 9 P3_5/SCL/SSCK(/CLK2/TRCIOD/TRDIOD1) (io), 10 P3_4/IVREF3/SSI(/RXD2/SCL2/TXD2/SDA2/TRCIOC/TRDIOC1/SDA) (io), 11 P3_3/IVCMP3/~{INT}3/~{SCS}(/~{CTS}2/~{RTS}2/TRCCLK) (io), 12 P2_5(/TRDIOB1) (io), 13 P2_4(/TRDIOA1) (io), 14 P2_3(/TRDIOD0) (io), 15 P2_2(/TRCIOD/TRDIOB0) (io), 16 P2_1(/TRCIOC/TRDIOC0) (io), 17 P2_0(/~{INT}1/TRCIOB/TRDIOA0/TRDCLK) (io), 18 P3_1(/TRBO) (io), 19 P6_6/~{INT}2(/TXD2/SDA2/TRCIOC) (io), 20 P4_5/~{ADTRG}/~{INT}0(/RXD2/SCL2) (io), 21 P1_7/IVCMP1/~{INT}1(/TRAIO) (io), 22 P1_6/LVCOUT2/IVREF1(/CLK0) (io), 23 P1_5(/~{INT}1/RXD0/TRAIO) (io), 24 P1_4(/TXD0/TRCCLK) (io), 25 P1_3/AN11/LVCOUT1/Kl3/TRBO(/TRCIOC) (io), 26 P1_2/AN10/LVREF/Kl2(/TRCIOB) (io), 27 P1_1/AN9/LVCMP2/~{KI}1(/TRCIOA/TRCTRG) (io), 28 P1_0/AN8/LVCMP1/~{KI}0(/TRCIOD) (io), 29 P0_7/AN0/DA1(/TRCIOC) (io), 30 P0_6/AN1/DA0(/TRCIOD) (io), 31 P0_4/AN3/TREO(/TRCIOB) (io), 32 P0_3/AN4(/CLK1/TRCIOB) (io), 33 P0_2/AN5(/RXD1/TRCIOA/TRCTRG) (io), 34 P0_1/AN6(/TXD1/TRCIOA/TRCTRG) (io), 35 P4_2/VREF (in), 36 MODE (in)